# Altium schematic symbol library En.SCHLIB: 250 symbols (part 3 of 5)
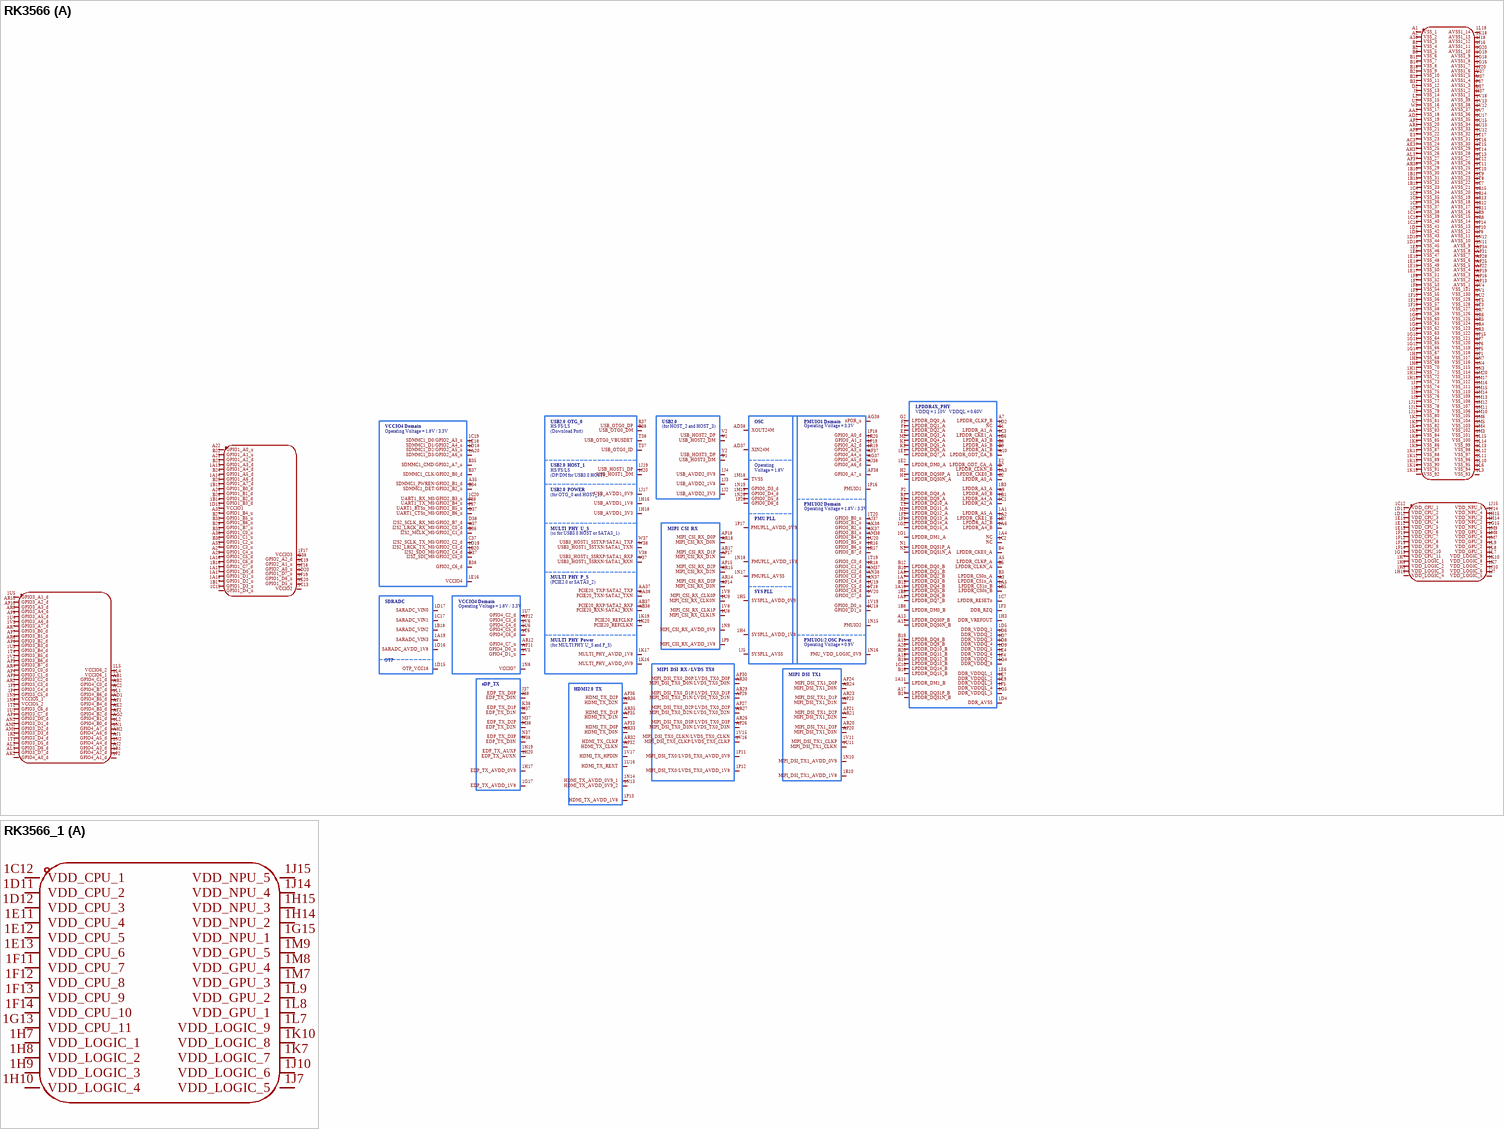
[diagram p21: symbols RK3566 to RK3566_1]

## RK3566
designator U?  (value not drawn)
Manufacturer: Rockchip(瑞芯微); Add into BOM: yes; Symbol: RK3566; Device: RK3566; LCSC Part Name: RK3566; Supplier Part: C2943786; Manufacturer Part: RK3566; Supplier Footprint: BGA-565(15.5x14.4); JLCPCB Part Class: Extended Part; Datasheet: https://atta.szlcsc.com/upload/public/pdf/source/20240126/58C1D355804B22318A1D6A9C85EA3A92.pdf; Supplier: LCSC; Convert to PCB: yes
footprint BGA-565_L15.5-W14.4-P0.40_RK3566_1
3D model BGA-565_L15.5-W14.4-P0.40_RK3566_1
part A pins: 1A1 LPDDR_A5_A, 1A2 LPDDR_CKE1_B, 1A3 LPDDR_CKE0_B, 1A4 NC, 1A5 LPDDR_CS1n_B, 1A6 LPDDR_A4_B, 1A7 LPDDR_DQ3_B, 1A8 LPDDR_DQ2_B, 1A9 LPDDR_DQ7_B, 1A10 LPDDR_DQ5_B, 1A11 LPDDR_DM1_B, 1A13 GPIO1_A4_d, 1A14 GPIO1_A6_d, 1A15 GPIO1_D0_d, 1A16 GPIO1_C6_d, 1A17 GPIO1_D1_u, 1A18 GPIO1_D2_u, 1A19 SARADC_VIN3, 1A20 SDMMC1_D3/GPIO2_A6_u, 1B1 LPDDR_A4_A, 1B3 LPDDR_A3_A, 1B5 LPDDR_CS0n_B, 1B6 LPDDR_A3_B, 1B7 LPDDR_A2_B, 1B8 LPDDR_DM0_B, 1B9 LPDDR_DQ6_B, 1B10 VSS_30, 1B11 VSS_31, 1B13 GPIO1_B0_d, 1B14 GPIO1_B3_d, 1B15 VSS_32, 1B16 GPIO1_C7_d, 1B17 GPIO1_D3_u, 1B18 SARADC_VIN2, 1B19 VSS_33, 1B20 I2S2_SDO_M0/GPIO2_C4_d, 1C1 LPDDR_A2_A, 1C2 NC, 1C3 LPDDR_CKE1_A, 1C4 VSS_34, 1C5 VSS_35, 1C6 VSS_36, 1C7 LPDDR_RESETn, 1C8 VSS_37, 1C9 VSS_38, 1C10 LPDDR_DQ14_B, 1C12 VDD_CPU_1, 1C13 VCCIO2, 1C14 VSS_39, 1C15 GPIO1_D4_u, 1C16 VSS_40, 1C17 SARADC_VIN1, 1C18 VSS_41, 1C19 SDMMC1_D0/GPIO2_A3_u, 1C20 UART1_RX_M0/GPIO2_B3_u, 1D1 VSS_42, 1D2 NC, 1D3 VSS_43, 1D4 DDR_AVSS, 1D5 DDR_VDDQ_1, 1D6 DDR_VDDQ_2, 1D7 DDR_VDDQ_3, 1D8 DDR_VDDQ_4, 1D9 DDR_VDDQ_5, 1D10 VSS_44, 1D11 VDD_CPU_2, 1D12 VDD_CPU_3, 1D13 VCCIO1, 1D14 VSS_45, 1D15 OTP_VCC18, 1D16 SARADC_AVDD_1V8, 1D17 SARADC_VIN0, 1D18 SDMMC1_D2/GPIO2_A5_u, 1D19 I2S2_LRCK_TX_M0/GPIO2_C3_d, 1D20 GPIO1_D7_u, 1E1 LPDDR_DQ7_A, 1E2 LPDDR_DM0_A, 1E3 VSS_46, 1E4 DDR_VDDQ_6, 1E6 DDR_VDDQL_1, 1E7 DDR_VDDQL_2, 1E8 VSS_47, 1E9 DDR_VDDQL_3, 1E10 VSS_48, 1E11 VDD_CPU_4, 1E12 VDD_CPU_5, 1E13 VDD_CPU_6, 1E14 VSS_49, 1E15 VSS_50, 1E16 VCCIO4, 1E17 VSS_51, 1E18 SDMMC1_D1/GPIO2_A4_u, 1E19 GPIO2_A1_u, 1E20 GPIO1_D5_u, 1F1 LPDDR_DQ14_A, 1F2 LPDDR_DQ13_A, 1F3 DDR_RZQ, 1F4 DDR_VDDQ_7, 1F5 DDR_VDDQL_4, 1F6 VSS_52, 1F7 VSS_53, 1F8 VSS_54, 1F9 VSS_55, 1F10 VSS_56, 1F11 VDD_CPU_7, 1F12 VDD_CPU_8, 1F13 VDD_CPU_9, 1F14 VDD_CPU_10, 1F15 VSS_57, 1F16 VSS_58, 1F17 VCCIO3, 1F18 GPIO2_A0_u, 1F19 GPIO1_D6_u, 1F20 AVSS1_6, 1G1 LPDDR_DM1_A, 1G2 LPDDR_DQ15_A, 1G3 VSS_59, 1G4 DDR_VDDQ_8, 1G5 DDR_VDDQL_5, 1G6 VSS_60, 1G7 VSS_61, 1G8 VSS_62, 1G9 VSS_63, 1G10 VSS_64, 1G11 VSS_65, 1G12 VSS_66, 1G13 VDD_CPU_11, 1G14 VSS_67, 1G15 VDD_NPU_1, 1G16 AVSS1_7, 1G17 EDP_TX_AVDD_1V8, 1G18 AVSS1_8, 1G19 AVSS1_9, 1G20 AVSS1_10, 1H1 VSS_68, 1H2 VSS_69, 1H3 DDR_VREFOUT, 1H4 SYSPLL_AVDD_1V8, 1H5 SYSPLL_AVDD_0V9, 1H6 VSS_70, 1H7 VDD_LOGIC_1, 1H8 VDD_LOGIC_2, 1H9 VDD_LOGIC_3, 1H10 VDD_LOGIC_4, 1H11 VSS_71, 1H12 VSS_72, 1H13 VSS_73, 1H14 VDD_NPU_2, 1H15 VDD_NPU_3, 1H16 USB_AVDD1_1V8, 1H17 EDP_TX_AVDD_0V9, 1H18 USB_AVDD1_3V3, 1H19 EDP_TX_AUXP, 1H20 EDP_TX_AUXN, 1J1 VSS_74, 1J2 USB_AVDD2_3V3, 1J3 USB_AVDD2_1V8, 1J4 USB_AVDD2_0V9, 1J5 SYSPLL_AVSS, 1J6 VSS_75, 1J7 VDD_LOGIC_5, 1J8 VSS_76, 1J9 VSS_77, 1J10 VDD_LOGIC_6, 1J11 VSS_78, 1J12 VSS_79, 1J13 VSS_80, 1J14 VDD_NPU_4, 1J15 VDD_NPU_5, 1J16 AVSS1_11, 1J17 USB_AVDD1_0V9, 1J18 AVSS1_12, 1J19 USB_HOST1_DP, 1J20 USB_HOST1_DM, 1K2 VSS_81, 1K3 VSS_82, 1K4 VSS_83, 1K5 VSS_84, 1K6 VSS_85, 1K7 VDD_LOGIC_7, 1K8 VSS_86, 1K9 VSS_87, 1K10 VDD_LOGIC_8, 1K11 VSS_88, 1K12 VSS_89, 1K13 VSS_90, 1K14 VSS_91, 1K15 VSS_92, 1K16 MULTI_PHY_AVDD_0V9, 1K17 MULTI_PHY_AVDD_1V8, 1K18 AVSS1_13, 1K19 PCIE20_REFCLKP, 1K20 PCIE20_REFCLKN, 1L1 GPIO4_B6_d, 1L2 GPIO4_B0_d, 1L3 VSS_93, 1L4 VCCIO6_1, 1L5 VCCIO6_2, 1L6 VSS_94, 1L7 VDD_LOGIC_9, 1L8 VDD_GPU_1, 1L9 VDD_GPU_2, 1L10 VSS_95, 1L11 VSS_96, 1L12 VSS_97, 1L13 VSS_98, 1L14 VSS_99, 1L15 VSS_100, 1L19 AVSS1_14, 1M3 VSS_101, 1M4 VSS_102, 1M5 VSS_103, 1M6 VSS_104, 1M7 VDD_GPU_3, 1M8 VDD_GPU_4, 1M9 VDD_GPU_5, 1M10 VSS_105, 1M11 VSS_106, 1M12 VSS_107, 1M13 VSS_108, 1M14 VSS_109, 1M15 VSS_110, 1M16 VSS_111, 1M17 VSS_112, 1M18 TVSS, 1M19 GPIO0_D4_d, 1M20 VSS_113, 1N1 GPIO4_A7_d, 1N2 GPIO4_A4_d, 1N3 VSS_114, 1N4 VSS_115, 1N5 VCCIO5_1, 1N6 VCCIO5_2, 1N7 VSS_116, 1N8 VCCIO7, 1N9 MIPI_CSI_RX_AVDD_0V9, 1N10 MIPI_DSI_TX1_AVDD_0V9, 1N11 AVSS_9, 1N12 AVSS_10, 1N13 HDMI_TX_AVDD_0V9_2, 1N14 HDMI_TX_AVDD_0V9_1, 1N15 PMUIO2, 1N16 PMU_VDD_LOGIC_0V9, 1N17 PMUPLL_AVSS, 1N18 PMUPLL_AVDD_1V8, 1N19 GPIO0_D3_d, 1N20 GPIO0_D5_d, 1P1 VSS_117, 1P2 GPIO4_A1_d, 1P3 GPIO3_C4_d, 1P4 GPIO3_C5_d, 1P5 VSS_118, 1P6 VSS_119, 1P7 VSS_120, 1P8 AVSS_11, 1P9 MIPI_CSI_RX_AVDD_1V8, 1P10 AVSS_12, 1P11 MIPI_DSI_TX0/LVDS_TX0_AVDD_0V9, 1P12 MIPI_DSI_TX0/LVDS_TX0_AVDD_1V8, 1P13 HDMI_TX_AVDD_1V8, 1P14 AVSS_13, 1P15 VSS_121, 1P16 PMUIO1, 1P17 PMUPLL_AVDD_0V9, 1P18 GPIO0_A0_d, 1P19 GPIO0_A2_d, 1P20 GPIO0_D6_d, 1R1 GPIO4_A2_d, 1R2 GPIO3_D4_d, 1R3 VSS_122, 1R4 VSS_123, 1R5 VSS_124, 1R6 VSS_125, 1R7 VSS_126, 1R8 AVSS_14, 1R9 AVSS_15, 1R10 MIPI_DSI_TX1_AVDD_1V8, 1R11 AVSS_16, 1R12 AVSS_17, 1R13 AVSS_18, 1R14 AVSS_19, 1R15 AVSS_20, 1R16 GPIO0_B6_u, 1R17 GPIO0_B7_d, 1R18 GPIO0_C1_d, 1R19 GPIO0_A3_u, 1R20 GPIO0_A1_z, 1T1 GPIO3_D5_d, 1T2 GPIO3_C6_d, 1T3 VSS_127, 1T4 GPIO3_B5_d, 1T5 VSS_128, 1T6 GPIO4_C6_d, 1T7 AVSS_21, 1T8 AVSS_22, 1T9 AVSS_23, 1T10 AVSS_24, 1T11 AVSS_25, 1T12 AVSS_26, 1T13 AVSS_27, 1T14 AVSS_28, 1T15 AVSS_29, 1T16 AVSS_30, 1T17 AVSS_31, 1T18 GPIO0_C6_d, 1T19 GPIO0_C0_d, 1T20 GPIO0_B0_u, 1U1 GPIO3_C7_d, 1U2 VSS_129, 1U3 GPIO3_B4_d, 1U4 GPIO3_A6_d, 1U5 GPIO3_A1_d, 1U6 GPIO4_C5_d, 1U7 GPIO4_C2_d, 1U8 MIPI_CSI_RX_CLK1N, 1U9 MIPI_CSI_RX_CLK0N, 1U11 MIPI_DSI_TX1_CLKN, 1U12 AVSS_32, 1U13 AVSS_33, 1U15 AVSS_34, 1U16 HDMI_TX_REXT, 1U17 AVSS_35, 1U18 GPIO0_D1_u, 1U19 GPIO0_C5_d, 1U20 GPIO0_B5_u, 1V1 VSS_130, 1V2 GPIO3_B6_d, 1V3 GPIO3_A7_d, 1V4 VSS_131, 1V5 GPIO4_D1_u, 1V6 GPIO4_C4_d, 1V7 AVSS_36, 1V8 MIPI_CSI_RX_CLK1P, 1V9 MIPI_CSI_RX_CLK0P, 1V11 MIPI_DSI_TX1_CLKP, 1V12 AVSS_37, 1V13 AVSS_38, 1V15 MIPI_DSI_TX0_CLKN/LVDS_TX0_CLKN, 1V16 MIPI_DSI_TX0_CLKP/LVDS_TX0_CLKP, 1V17 HDMI_TX_HPDIN, 1V18 AVSS_39, 1V19 GPIO0_D0_u, 1V20 GPIO0_C7_d, A1 VSS_1, A2 VSS_2, A3 LPDDR_CS1n_A, A5 LPDDR_CLKP_A, A7 LPDDR_CLKP_B, A9 LPDDR_A0_B, A10 LPDDR_ODT_CA_B, A12 LPDDR_DQS0N_B, A13 LPDDR_DQS0P_B, A15 LPDDR_DQ12_B, A17 LPDDR_DQS1P_B, A19 LPDDR_DQ9_B, A20 LPDDR_DQ10_B, A22 GPIO1_A0_u, A23 GPIO1_A2_d, A26 GPIO1_B1_d, A27 GPIO1_C4_u, A29 GPIO1_C5_d, A30 GPIO1_C1_u, A32 GPIO1_B4_u, A33 GPIO1_C3_u, A35 SDMMC1_PWREN/GPIO2_B1_d, A37 I2S2_LRCK_RX_M0/GPIO2_C0_d, A38 VSS_3, AA2 VSS_18, AA37 PCIE20_TXP/SATA2_TXP, AA38 PCIE20_TXN/SATA2_TXN, AB1 GPIO4_C1_d, AB2 GPIO4_C0_d, AB37 PCIE20_RXP/SATA2_RXP, AB38 PCIE20_RXN/SATA2_RXN, AC2 GPIO4_B7_d, AC37 VSS_24, AD1 GPIO4_B5_d, AD2 VSS_19, AD37 XIN24M, AD38 XOUT24M, AE2 GPIO4_B3_d, AE37 VSS_25, AF1 GPIO4_B4_d, AF2 GPIO4_B2_d, AF37 GPIO0_A4_u, AF38 GPIO0_A7_u, AG2 GPIO4_B1_d, AG37 GPIO0_A5_d, AG38 nPOR_u, AH2 GPIO4_A6_d, AH37 VSS_26, AJ1 GPIO4_A5_d, AJ2 GPIO4_A3_d, AJ37 GPIO0_B1_u, AJ38 GPIO0_A6_d, AK2 GPIO4_A0_d, AK37 GPIO0_B3_u, AK38 GPIO0_B2_u, AL1 GPIO3_D7_d, AL2 GPIO3_D6_d, AL37 VSS_27, AM1 GPIO3_D3_d, AM2 GPIO3_D2_d, AM37 GPIO0_C2_d, AM38 GPIO0_B4_u, AN2 GPIO3_D1_d, AN37 GPIO0_C4_d, AN38 GPIO0_C3_d, AP1 GPIO3_D0_d, AP2 VSS_20, AP3 GPIO3_C2_d, AP4 GPIO3_C1_d, AP5 GPIO3_B7_d, AP6 GPIO3_B3_d, AP7 GPIO3_B1_d, AP8 VSS_22, AP9 GPIO3_A5_d, AP10 GPIO3_A3_d, AP11 GPIO4_D0_u, AP12 GPIO4_C3_d, AP13 AVSS_1, AP14 MIPI_CSI_RX_D3N, AP15 MIPI_CSI_RX_D2P, AP16 AVSS_2, AP17 MIPI_CSI_RX_D1N, AP18 MIPI_CSI_RX_D0P, AP19 AVSS_3, AP20 MIPI_DSI_TX1_D3N, AP21 MIPI_DSI_TX1_D2P, AP22 AVSS_4, AP23 MIPI_DSI_TX1_D1N, AP24 MIPI_DSI_TX1_D0P, AP25 AVSS_5, AP26 MIPI_DSI_TX0_D3N/LVDS_TX0_D3N, AP27 MIPI_DSI_TX0_D2P/LVDS_TX0_D2P, AP28 AVSS_6, AP29 MIPI_DSI_TX0_D1N/LVDS_TX0_D1N, AP30 MIPI_DSI_TX0_D0P/LVDS_TX0_D0P, AP31 AVSS_7, AP32 HDMI_TX_CLKN, AP33 HDMI_TX_D0P, AP34 AVSS_8, AP35 HDMI_TX_D1N, AP36 HDMI_TX_D2P, AP37 VSS_28, AR1 VSS_21, AR2 GPIO3_C3_d, AR4 GPIO3_C0_d, AR6 GPIO3_B2_d, AR7 GPIO3_B0_d, AR9 GPIO3_A4_d, AR10 GPIO3_A2_d, AR12 GPIO4_C7_u, AR14 MIPI_CSI_RX_D3P, AR15 MIPI_CSI_RX_D2N, AR17 MIPI_CSI_RX_D1P, AR18 MIPI_CSI_RX_D0N, AR20 MIPI_DSI_TX1_D3P, AR21 MIPI_DSI_TX1_D2N, AR23 MIPI_DSI_TX1_D1P, AR24 MIPI_DSI_TX1_D0N, AR26 MIPI_DSI_TX0_D3P/LVDS_TX0_D3P, AR27 MIPI_DSI_TX0_D2N/LVDS_TX0_D2N, AR29 MIPI_DSI_TX0_D1P/LVDS_TX0_D1P, AR30 MIPI_DSI_TX0_D0N/LVDS_TX0_D0N, AR32 HDMI_TX_CLKP, AR33 HDMI_TX_D0N, AR35 HDMI_TX_D1P, AR36 HDMI_TX_D2N, AR38 VSS_29, B1 VSS_4, B2 VSS_5, B3 LPDDR_CS0n_A, B4 LPDDR_CKE0_A, B5 LPDDR_CLKN_A, B6 VSS_6, B7 LPDDR_CLKN_B, B8 LPDDR_A5_B, B9 LPDDR_A1_B, B10 LPDDR_DQ1_B, B11 VSS_7, B12 LPDDR_DQ0_B, B13 LPDDR_DQ4_B, B14 VSS_8, B15 LPDDR_DQ13_B, B16 LPDDR_DQ15_B, B17 LPDDR_DQS1N_B, B18 VSS_9, B19 LPDDR_DQ8_B, B20 LPDDR_DQ11_B, B21 VSS_10, B22 GPIO1_A1_u, B23 GPIO1_A3_d, B24 GPIO1_A5_d, B25 GPIO1_A7_d, B26 GPIO1_B2_d, B27 GPIO1_B5_u, B28 VSS_11, B29 GPIO1_B7_u, B30 GPIO1_C2_u, B31 VSS_12, B32 GPIO1_B6_u, B33 GPIO1_C0_u, B34 SDMMC1_DET/GPIO2_B2_u, B35 SDMMC1_CMD/GPIO2_A7_u, B36 I2S2_MCLK_M0/GPIO2_C1_d, B37 SDMMC1_CLK/GPIO2_B0_d, B38 GPIO2_C6_d, C1 LPDDR_A1_A, C2 LPDDR_A0_A, C37 I2S2_SCLK_TX_M0/GPIO2_C2_d, D2 VSS_13, D37 I2S2_SDI_M0/GPIO2_C5_d, D38 I2S2_SCLK_RX_M0/GPIO2_B7_d, E1 LPDDR_DQ3_A, E2 LPDDR_ODT_CA_A, E37 VSS_23, F1 LPDDR_DQ2_A, F2 LPDDR_DQ1_A, F37 UART1_RTSn_M0/GPIO2_B5_u, F38 UART1_TX_M0/GPIO2_B4_u, G2 LPDDR_DQ0_A, G37 UART1_CTSn_M0/GPIO2_B6_u, G38 GPIO2_A2_d, H1 LPDDR_DQS0N_A, H2 LPDDR_DQS0P_A, H37 AVSS1_1, J2 VSS_14, J37 EDP_TX_D0P, J38 EDP_TX_D0N, K1 LPDDR_DQ5_A, K2 LPDDR_DQ6_A, K37 EDP_TX_D1N, K38 EDP_TX_D1P, L2 VSS_15, L37 AVSS1_2, M1 LPDDR_DQ12_A, M2 LPDDR_DQ4_A, M37 EDP_TX_D2P, M38 EDP_TX_D2N, N1 LPDDR_DQS1P_A, N2 LPDDR_DQS1N_A, N37 EDP_TX_D3P, N38 EDP_TX_D3N, P2 LPDDR_DQ8_A, P37 AVSS1_3, R1 LPDDR_DQ9_A, R2 LPDDR_DQ10_A, R37 USB_OTG0_DP, R38 USB_OTG0_DM, T2 LPDDR_DQ11_A, T37 USB_OTG0_ID, T38 USB_OTG0_VBUSDET, U2 VSS_16, U37 AVSS1_4, V1 USB_HOST2_DM, V2 USB_HOST2_DP, V37 USB3_HOST1_SSRXN/SATA1_RXN, V38 USB3_HOST1_SSRXP/SATA1_RXP, W2 VSS_17, W37 USB3_HOST1_SSTXP/SATA1_TXP, W38 USB3_HOST1_SSTXN/SATA1_TXN, Y1 USB_HOST3_DM, Y2 USB_HOST3_DP, Y37 AVSS1_5
part A text: LPDDR4X_PHY; VDDQ = 1.10V   VDDQL = 0.60V; USB2.0  OTG_0; USB2.0; OSC; PMUIO1 Domain; VCCIO4 Domain; HS/FS/LS; (for HOST_2 and HOST_3); Operating Voltage = 3.3V; Operating Voltage = 1.8V / 3.3V; (Download Port); USB2.0  HOST_1; Operating; Voltage = 1.8V; (DP/DM for USB3.0 HOST); USB2.0  POWER; (for OTG_0 and HOST_1); PMUIO2 Domain; PMU PLL; MULTI  PHY  U_S; MIPI  CSI  RX; (ss for USB3.0 HOST or SATA3_1); MULTI  PHY  P_S; (PCIE2.0 or SATA3_2); SYS PLL; SDRADC; MULTI  PHY  Power; PMUIO1/2 OSC Power; (for MULTI PHY U_S and P_S); Operating Voltage = 0.9V; OTP; MIPI  DSI  RX / LVDS  TX0; MIPI  DSI  TX1; eDP_TX; HDMI2.0  TX

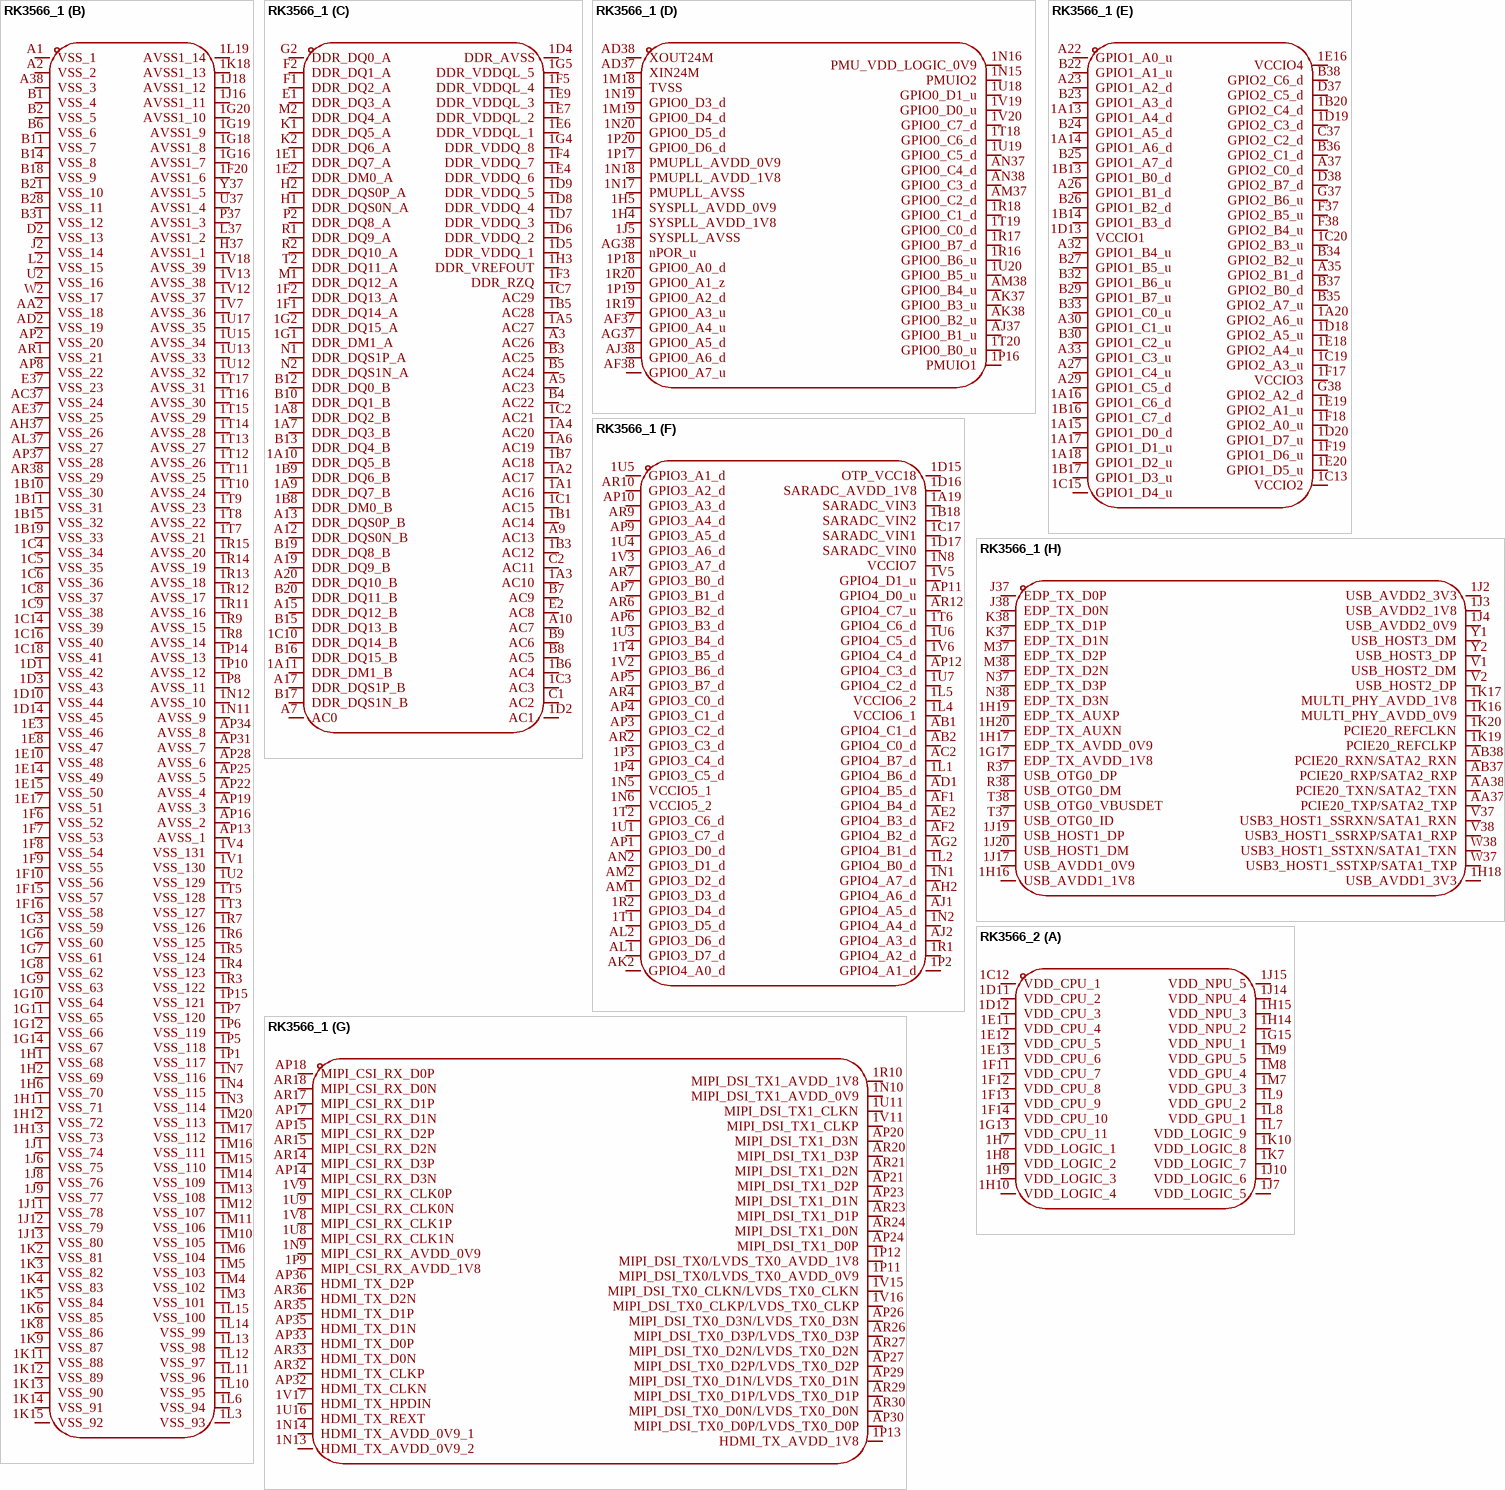
[diagram p8: symbols RK3566_1 to RK3566_2]

## RK3566_1
designator U?, comment RK3566  (value not drawn)
Manufacturer: Rockchip(瑞芯微); Add into BOM: yes; Symbol: RK3566; Device: RK3566; LCSC Part Name: RK3566; Supplier Part: C2943786; Manufacturer Part: RK3566; Supplier Footprint: BGA-565(15.5x14.4); JLCPCB Part Class: Extended Part; Datasheet: https://atta.szlcsc.com/upload/public/pdf/source/20240126/58C1D355804B22318A1D6A9C85EA3A92.pdf; Supplier: LCSC; Convert to PCB: yes
footprint BGA-565_L15.5-W14.4-P0.40_RK3566_1
3D model BGA-565_L15.5-W14.4-P0.40_RK3566_1
part A pins: 1C12 VDD_CPU_1, 1D11 VDD_CPU_2, 1D12 VDD_CPU_3, 1E11 VDD_CPU_4, 1E12 VDD_CPU_5, 1E13 VDD_CPU_6, 1F11 VDD_CPU_7, 1F12 VDD_CPU_8, 1F13 VDD_CPU_9, 1F14 VDD_CPU_10, 1G13 VDD_CPU_11, 1G15 VDD_NPU_1, 1H7 VDD_LOGIC_1, 1H8 VDD_LOGIC_2, 1H9 VDD_LOGIC_3, 1H10 VDD_LOGIC_4, 1H14 VDD_NPU_2, 1H15 VDD_NPU_3, 1J7 VDD_LOGIC_5, 1J10 VDD_LOGIC_6, 1J14 VDD_NPU_4, 1J15 VDD_NPU_5, 1K7 VDD_LOGIC_7, 1K10 VDD_LOGIC_8, 1L7 VDD_LOGIC_9, 1L8 VDD_GPU_1, 1L9 VDD_GPU_2, 1M7 VDD_GPU_3, 1M8 VDD_GPU_4, 1M9 VDD_GPU_5
part B pins: 1B10 VSS_30, 1B11 VSS_31, 1B15 VSS_32, 1B19 VSS_33, 1C4 VSS_34, 1C5 VSS_35, 1C6 VSS_36, 1C8 VSS_37, 1C9 VSS_38, 1C14 VSS_39, 1C16 VSS_40, 1C18 VSS_41, 1D1 VSS_42, 1D3 VSS_43, 1D10 VSS_44, 1D14 VSS_45, 1E3 VSS_46, 1E8 VSS_47, 1E10 VSS_48, 1E14 VSS_49, 1E15 VSS_50, 1E17 VSS_51, 1F6 VSS_52, 1F7 VSS_53, 1F8 VSS_54, 1F9 VSS_55, 1F10 VSS_56, 1F15 VSS_57, 1F16 VSS_58, 1F20 AVSS1_6, 1G3 VSS_59, 1G6 VSS_60, 1G7 VSS_61, 1G8 VSS_62, 1G9 VSS_63, 1G10 VSS_64, 1G11 VSS_65, 1G12 VSS_66, 1G14 VSS_67, 1G16 AVSS1_7, 1G18 AVSS1_8, 1G19 AVSS1_9, 1G20 AVSS1_10, 1H1 VSS_68, 1H2 VSS_69, 1H6 VSS_70, 1H11 VSS_71, 1H12 VSS_72, 1H13 VSS_73, 1J1 VSS_74, 1J6 VSS_75, 1J8 VSS_76, 1J9 VSS_77, 1J11 VSS_78, 1J12 VSS_79, 1J13 VSS_80, 1J16 AVSS1_11, 1J18 AVSS1_12, 1K2 VSS_81, 1K3 VSS_82, 1K4 VSS_83, 1K5 VSS_84, 1K6 VSS_85, 1K8 VSS_86, 1K9 VSS_87, 1K11 VSS_88, 1K12 VSS_89, 1K13 VSS_90, 1K14 VSS_91, 1K15 VSS_92, 1K18 AVSS1_13, 1L3 VSS_93, 1L6 VSS_94, 1L10 VSS_95, 1L11 VSS_96, 1L12 VSS_97, 1L13 VSS_98, 1L14 VSS_99, 1L15 VSS_100, 1L19 AVSS1_14, 1M3 VSS_101, 1M4 VSS_102, 1M5 VSS_103, 1M6 VSS_104, 1M10 VSS_105, 1M11 VSS_106, 1M12 VSS_107, 1M13 VSS_108, 1M14 VSS_109, 1M15 VSS_110, 1M16 VSS_111, 1M17 VSS_112, 1M20 VSS_113, 1N3 VSS_114, 1N4 VSS_115, 1N7 VSS_116, 1N11 AVSS_9, 1N12 AVSS_10, 1P1 VSS_117, 1P5 VSS_118, 1P6 VSS_119, 1P7 VSS_120, 1P8 AVSS_11, 1P10 AVSS_12, 1P14 AVSS_13, 1P15 VSS_121, 1R3 VSS_122, 1R4 VSS_123, 1R5 VSS_124, 1R6 VSS_125, 1R7 VSS_126, 1R8 AVSS_14, 1R9 AVSS_15, 1R11 AVSS_16, 1R12 AVSS_17, 1R13 AVSS_18, 1R14 AVSS_19, 1R15 AVSS_20, 1T3 VSS_127, 1T5 VSS_128, 1T7 AVSS_21, 1T8 AVSS_22, 1T9 AVSS_23, 1T10 AVSS_24, 1T11 AVSS_25, 1T12 AVSS_26, 1T13 AVSS_27, 1T14 AVSS_28, 1T15 AVSS_29, 1T16 AVSS_30, 1T17 AVSS_31, 1U2 VSS_129, 1U12 AVSS_32, 1U13 AVSS_33, 1U15 AVSS_34, 1U17 AVSS_35, 1V1 VSS_130, 1V4 VSS_131, 1V7 AVSS_36, 1V12 AVSS_37, 1V13 AVSS_38, 1V18 AVSS_39, A1 VSS_1, A2 VSS_2, A38 VSS_3, AA2 VSS_18, AC37 VSS_24, AD2 VSS_19, AE37 VSS_25, AH37 VSS_26, AL37 VSS_27, AP2 VSS_20, AP8 VSS_22, AP13 AVSS_1, AP16 AVSS_2, AP19 AVSS_3, AP22 AVSS_4, AP25 AVSS_5, AP28 AVSS_6, AP31 AVSS_7, AP34 AVSS_8, AP37 VSS_28, AR1 VSS_21, AR38 VSS_29, B1 VSS_4, B2 VSS_5, B6 VSS_6, B11 VSS_7, B14 VSS_8, B18 VSS_9, B21 VSS_10, B28 VSS_11, B31 VSS_12, D2 VSS_13, E37 VSS_23, H37 AVSS1_1, J2 VSS_14, L2 VSS_15, L37 AVSS1_2, P37 AVSS1_3, U2 VSS_16, U37 AVSS1_4, W2 VSS_17, Y37 AVSS1_5
part C pins: 1A1 AC16, 1A2 AC17, 1A3 AC10, 1A4 AC20, 1A5 AC27, 1A6 AC19, 1A7 DDR_DQ3_B, 1A8 DDR_DQ2_B, 1A9 DDR_DQ7_B, 1A10 DDR_DQ5_B, 1A11 DDR_DM1_B, 1B1 AC14, 1B3 AC12, 1B5 AC28, 1B6 AC4, 1B7 AC18, 1B8 DDR_DM0_B, 1B9 DDR_DQ6_B, 1C1 AC15, 1C2 AC21, 1C3 AC3, 1C7 AC29, 1C10 DDR_DQ14_B, 1D2 AC1, 1D4 DDR_AVSS, 1D5 DDR_VDDQ_1, 1D6 DDR_VDDQ_2, 1D7 DDR_VDDQ_3, 1D8 DDR_VDDQ_4, 1D9 DDR_VDDQ_5, 1E1 DDR_DQ7_A, 1E2 DDR_DM0_A, 1E4 DDR_VDDQ_6, 1E6 DDR_VDDQL_1, 1E7 DDR_VDDQL_2, 1E9 DDR_VDDQL_3, 1F1 DDR_DQ14_A, 1F2 DDR_DQ13_A, 1F3 DDR_RZQ, 1F4 DDR_VDDQ_7, 1F5 DDR_VDDQL_4, 1G1 DDR_DM1_A, 1G2 DDR_DQ15_A, 1G4 DDR_VDDQ_8, 1G5 DDR_VDDQL_5, 1H3 DDR_VREFOUT, A3 AC26, A5 AC23, A7 AC0, A9 AC13, A10 AC7, A12 DDR_DQS0N_B, A13 DDR_DQS0P_B, A15 DDR_DQ12_B, A17 DDR_DQS1P_B, A19 DDR_DQ9_B, A20 DDR_DQ10_B, B3 AC25, B4 AC22, B5 AC24, B7 AC9, B8 AC5, B9 AC6, B10 DDR_DQ1_B, B12 DDR_DQ0_B, B13 DDR_DQ4_B, B15 DDR_DQ13_B, B16 DDR_DQ15_B, B17 DDR_DQS1N_B, B19 DDR_DQ8_B, B20 DDR_DQ11_B, C1 AC2, C2 AC11, E1 DDR_DQ3_A, E2 AC8, F1 DDR_DQ2_A, F2 DDR_DQ1_A, G2 DDR_DQ0_A, H1 DDR_DQS0N_A, H2 DDR_DQS0P_A, K1 DDR_DQ5_A, K2 DDR_DQ6_A, M1 DDR_DQ12_A, M2 DDR_DQ4_A, N1 DDR_DQS1P_A, N2 DDR_DQS1N_A, P2 DDR_DQ8_A, R1 DDR_DQ9_A, R2 DDR_DQ10_A, T2 DDR_DQ11_A
part D pins: 1H4 SYSPLL_AVDD_1V8, 1H5 SYSPLL_AVDD_0V9, 1J5 SYSPLL_AVSS, 1M18 TVSS, 1M19 GPIO0_D4_d, 1N15 PMUIO2, 1N16 PMU_VDD_LOGIC_0V9, 1N17 PMUPLL_AVSS, 1N18 PMUPLL_AVDD_1V8, 1N19 GPIO0_D3_d, 1N20 GPIO0_D5_d, 1P16 PMUIO1, 1P17 PMUPLL_AVDD_0V9, 1P18 GPIO0_A0_d, 1P19 GPIO0_A2_d, 1P20 GPIO0_D6_d, 1R16 GPIO0_B6_u, 1R17 GPIO0_B7_d, 1R18 GPIO0_C1_d, 1R19 GPIO0_A3_u, 1R20 GPIO0_A1_z, 1T18 GPIO0_C6_d, 1T19 GPIO0_C0_d, 1T20 GPIO0_B0_u, 1U18 GPIO0_D1_u, 1U19 GPIO0_C5_d, 1U20 GPIO0_B5_u, 1V19 GPIO0_D0_u, 1V20 GPIO0_C7_d, AD37 XIN24M, AD38 XOUT24M, AF37 GPIO0_A4_u, AF38 GPIO0_A7_u, AG37 GPIO0_A5_d, AG38 nPOR_u, AJ37 GPIO0_B1_u, AJ38 GPIO0_A6_d, AK37 GPIO0_B3_u, AK38 GPIO0_B2_u, AM37 GPIO0_C2_d, AM38 GPIO0_B4_u, AN37 GPIO0_C4_d, AN38 GPIO0_C3_d
part E pins: 1A13 GPIO1_A4_d, 1A14 GPIO1_A6_d, 1A15 GPIO1_D0_d, 1A16 GPIO1_C6_d, 1A17 GPIO1_D1_u, 1A18 GPIO1_D2_u, 1A20 GPIO2_A6_u, 1B13 GPIO1_B0_d, 1B14 GPIO1_B3_d, 1B16 GPIO1_C7_d, 1B17 GPIO1_D3_u, 1B20 GPIO2_C4_d, 1C13 VCCIO2, 1C15 GPIO1_D4_u, 1C19 GPIO2_A3_u, 1C20 GPIO2_B3_u, 1D13 VCCIO1, 1D18 GPIO2_A5_u, 1D19 GPIO2_C3_d, 1D20 GPIO1_D7_u, 1E16 VCCIO4, 1E18 GPIO2_A4_u, 1E19 GPIO2_A1_u, 1E20 GPIO1_D5_u, 1F17 VCCIO3, 1F18 GPIO2_A0_u, 1F19 GPIO1_D6_u, A22 GPIO1_A0_u, A23 GPIO1_A2_d, A26 GPIO1_B1_d, A27 GPIO1_C4_u, A29 GPIO1_C5_d, A30 GPIO1_C1_u, A32 GPIO1_B4_u, A33 GPIO1_C3_u, A35 GPIO2_B1_d, A37 GPIO2_C0_d, B22 GPIO1_A1_u, B23 GPIO1_A3_d, B24 GPIO1_A5_d, B25 GPIO1_A7_d, B26 GPIO1_B2_d, B27 GPIO1_B5_u, B29 GPIO1_B7_u, B30 GPIO1_C2_u, B32 GPIO1_B6_u, B33 GPIO1_C0_u, B34 GPIO2_B2_u, B35 GPIO2_A7_u, B36 GPIO2_C1_d, B37 GPIO2_B0_d, B38 GPIO2_C6_d, C37 GPIO2_C2_d, D37 GPIO2_C5_d, D38 GPIO2_B7_d, F37 GPIO2_B5_u, F38 GPIO2_B4_u, G37 GPIO2_B6_u, G38 GPIO2_A2_d
part F pins: 1A19 SARADC_VIN3, 1B18 SARADC_VIN2, 1C17 SARADC_VIN1, 1D15 OTP_VCC18, 1D16 SARADC_AVDD_1V8, 1D17 SARADC_VIN0, 1L1 GPIO4_B6_d, 1L2 GPIO4_B0_d, 1L4 VCCIO6_1, 1L5 VCCIO6_2, 1N1 GPIO4_A7_d, 1N2 GPIO4_A4_d, 1N5 VCCIO5_1, 1N6 VCCIO5_2, 1N8 VCCIO7, 1P2 GPIO4_A1_d, 1P3 GPIO3_C4_d, 1P4 GPIO3_C5_d, 1R1 GPIO4_A2_d, 1R2 GPIO3_D4_d, 1T1 GPIO3_D5_d, 1T2 GPIO3_C6_d, 1T4 GPIO3_B5_d, 1T6 GPIO4_C6_d, 1U1 GPIO3_C7_d, 1U3 GPIO3_B4_d, 1U4 GPIO3_A6_d, 1U5 GPIO3_A1_d, 1U6 GPIO4_C5_d, 1U7 GPIO4_C2_d, 1V2 GPIO3_B6_d, 1V3 GPIO3_A7_d, 1V5 GPIO4_D1_u, 1V6 GPIO4_C4_d, AB1 GPIO4_C1_d, AB2 GPIO4_C0_d, AC2 GPIO4_B7_d, AD1 GPIO4_B5_d, AE2 GPIO4_B3_d, AF1 GPIO4_B4_d, AF2 GPIO4_B2_d, AG2 GPIO4_B1_d, AH2 GPIO4_A6_d, AJ1 GPIO4_A5_d, AJ2 GPIO4_A3_d, AK2 GPIO4_A0_d, AL1 GPIO3_D7_d, AL2 GPIO3_D6_d, AM1 GPIO3_D3_d, AM2 GPIO3_D2_d, AN2 GPIO3_D1_d, AP1 GPIO3_D0_d, AP3 GPIO3_C2_d, AP4 GPIO3_C1_d, AP5 GPIO3_B7_d, AP6 GPIO3_B3_d, AP7 GPIO3_B1_d, AP9 GPIO3_A5_d, AP10 GPIO3_A3_d, AP11 GPIO4_D0_u, AP12 GPIO4_C3_d, AR2 GPIO3_C3_d, AR4 GPIO3_C0_d, AR6 GPIO3_B2_d, AR7 GPIO3_B0_d, AR9 GPIO3_A4_d, AR10 GPIO3_A2_d, AR12 GPIO4_C7_u
part G pins: 1N9 MIPI_CSI_RX_AVDD_0V9, 1N10 MIPI_DSI_TX1_AVDD_0V9, 1N13 HDMI_TX_AVDD_0V9_2, 1N14 HDMI_TX_AVDD_0V9_1, 1P9 MIPI_CSI_RX_AVDD_1V8, 1P11 MIPI_DSI_TX0/LVDS_TX0_AVDD_0V9, 1P12 MIPI_DSI_TX0/LVDS_TX0_AVDD_1V8, 1P13 HDMI_TX_AVDD_1V8, 1R10 MIPI_DSI_TX1_AVDD_1V8, 1U8 MIPI_CSI_RX_CLK1N, 1U9 MIPI_CSI_RX_CLK0N, 1U11 MIPI_DSI_TX1_CLKN, 1U16 HDMI_TX_REXT, 1V8 MIPI_CSI_RX_CLK1P, 1V9 MIPI_CSI_RX_CLK0P, 1V11 MIPI_DSI_TX1_CLKP, 1V15 MIPI_DSI_TX0_CLKN/LVDS_TX0_CLKN, 1V16 MIPI_DSI_TX0_CLKP/LVDS_TX0_CLKP, 1V17 HDMI_TX_HPDIN, AP14 MIPI_CSI_RX_D3N, AP15 MIPI_CSI_RX_D2P, AP17 MIPI_CSI_RX_D1N, AP18 MIPI_CSI_RX_D0P, AP20 MIPI_DSI_TX1_D3N, AP21 MIPI_DSI_TX1_D2P, AP23 MIPI_DSI_TX1_D1N, AP24 MIPI_DSI_TX1_D0P, AP26 MIPI_DSI_TX0_D3N/LVDS_TX0_D3N, AP27 MIPI_DSI_TX0_D2P/LVDS_TX0_D2P, AP29 MIPI_DSI_TX0_D1N/LVDS_TX0_D1N, AP30 MIPI_DSI_TX0_D0P/LVDS_TX0_D0P, AP32 HDMI_TX_CLKN, AP33 HDMI_TX_D0P, AP35 HDMI_TX_D1N, AP36 HDMI_TX_D2P, AR14 MIPI_CSI_RX_D3P, AR15 MIPI_CSI_RX_D2N, AR17 MIPI_CSI_RX_D1P, AR18 MIPI_CSI_RX_D0N, AR20 MIPI_DSI_TX1_D3P, AR21 MIPI_DSI_TX1_D2N, AR23 MIPI_DSI_TX1_D1P, AR24 MIPI_DSI_TX1_D0N, AR26 MIPI_DSI_TX0_D3P/LVDS_TX0_D3P, AR27 MIPI_DSI_TX0_D2N/LVDS_TX0_D2N, AR29 MIPI_DSI_TX0_D1P/LVDS_TX0_D1P, AR30 MIPI_DSI_TX0_D0N/LVDS_TX0_D0N, AR32 HDMI_TX_CLKP, AR33 HDMI_TX_D0N, AR35 HDMI_TX_D1P, AR36 HDMI_TX_D2N
part H pins: 1G17 EDP_TX_AVDD_1V8, 1H16 USB_AVDD1_1V8, 1H17 EDP_TX_AVDD_0V9, 1H18 USB_AVDD1_3V3, 1H19 EDP_TX_AUXP, 1H20 EDP_TX_AUXN, 1J2 USB_AVDD2_3V3, 1J3 USB_AVDD2_1V8, 1J4 USB_AVDD2_0V9, 1J17 USB_AVDD1_0V9, 1J19 USB_HOST1_DP, 1J20 USB_HOST1_DM, 1K16 MULTI_PHY_AVDD_0V9, 1K17 MULTI_PHY_AVDD_1V8, 1K19 PCIE20_REFCLKP, 1K20 PCIE20_REFCLKN, AA37 PCIE20_TXP/SATA2_TXP, AA38 PCIE20_TXN/SATA2_TXN, AB37 PCIE20_RXP/SATA2_RXP, AB38 PCIE20_RXN/SATA2_RXN, J37 EDP_TX_D0P, J38 EDP_TX_D0N, K37 EDP_TX_D1N, K38 EDP_TX_D1P, M37 EDP_TX_D2P, M38 EDP_TX_D2N, N37 EDP_TX_D3P, N38 EDP_TX_D3N, R37 USB_OTG0_DP, R38 USB_OTG0_DM, T37 USB_OTG0_ID, T38 USB_OTG0_VBUSDET, V1 USB_HOST2_DM, V2 USB_HOST2_DP, V37 USB3_HOST1_SSRXN/SATA1_RXN, V38 USB3_HOST1_SSRXP/SATA1_RXP, W37 USB3_HOST1_SSTXP/SATA1_TXP, W38 USB3_HOST1_SSTXN/SATA1_TXN, Y1 USB_HOST3_DM, Y2 USB_HOST3_DP

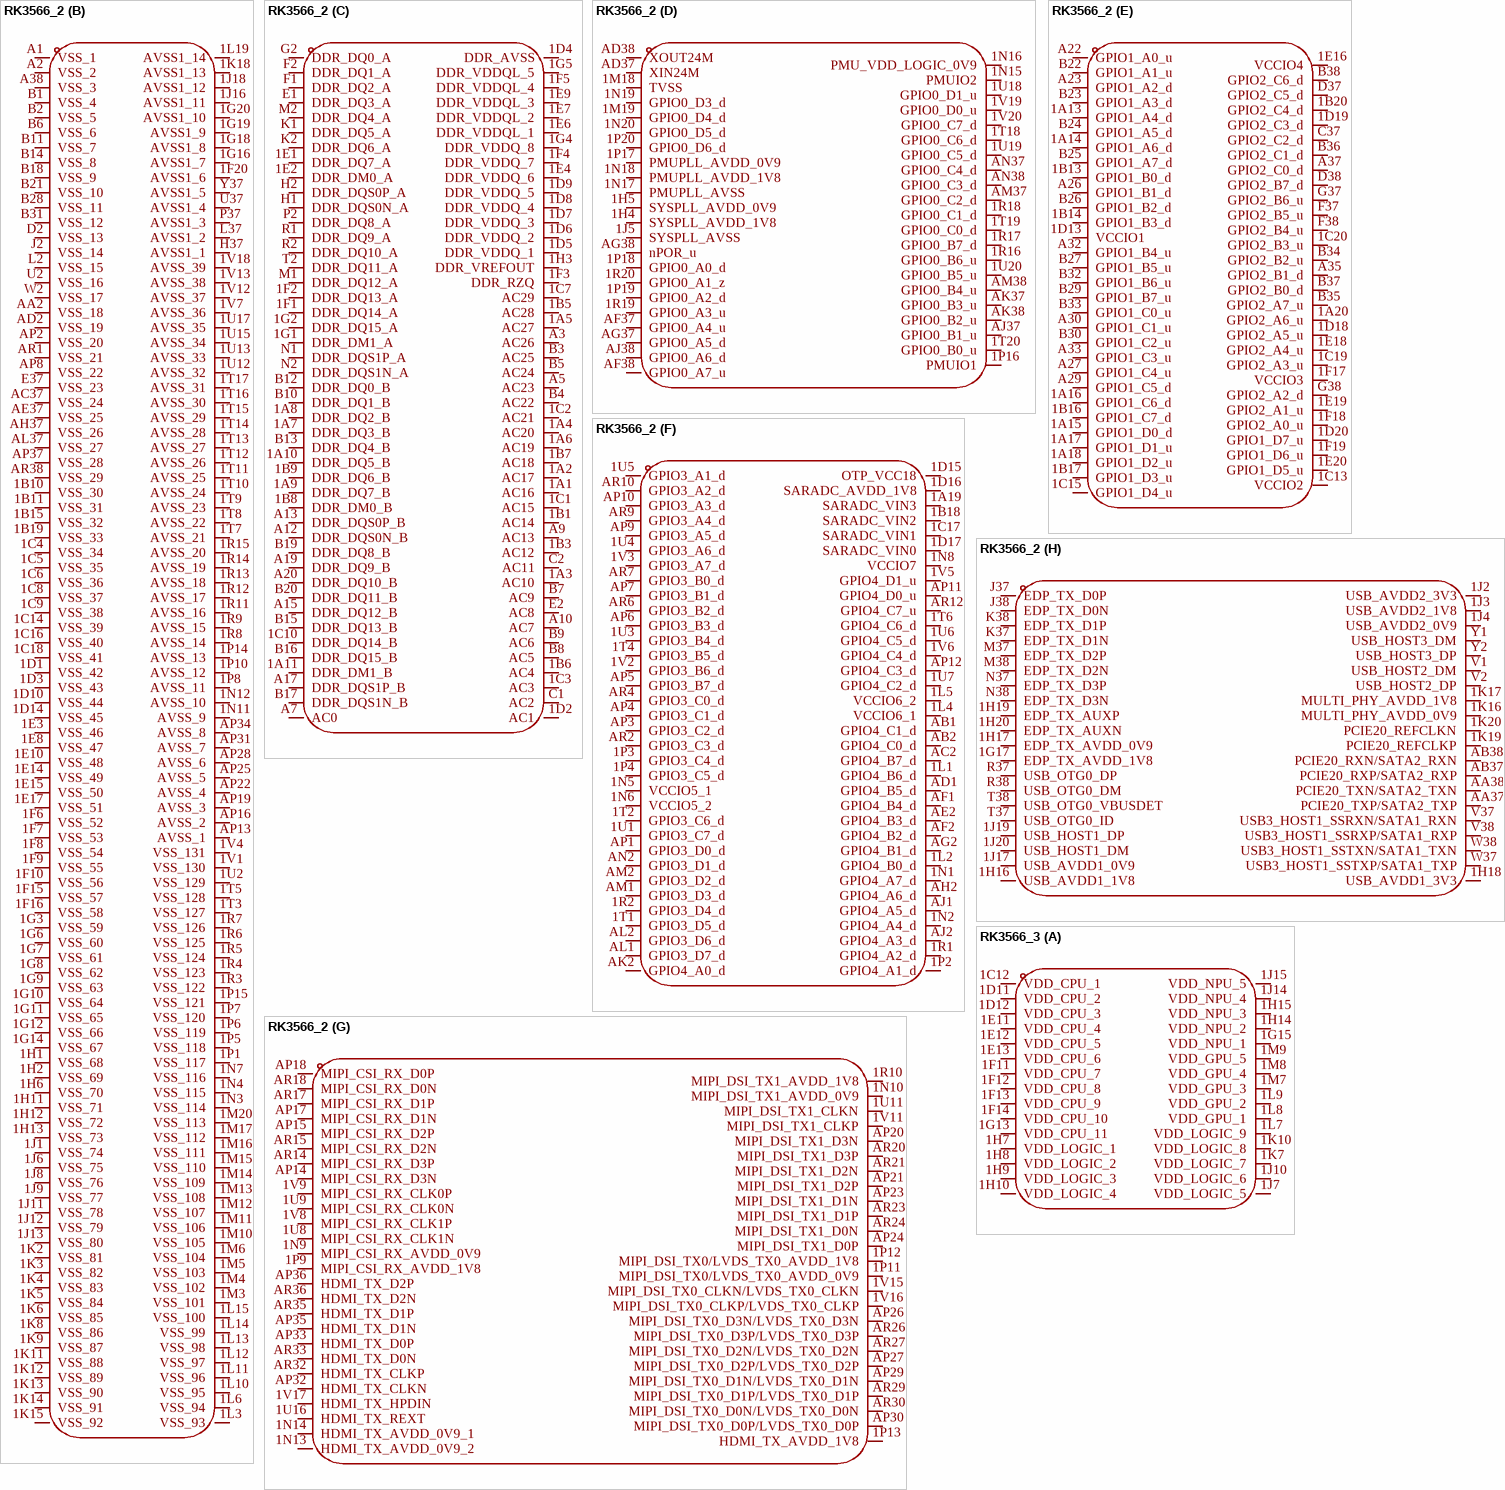
[diagram p9: symbols RK3566_2 to RK3566_3]

## RK3566_2
designator U?, comment RK3566  (value not drawn)
Manufacturer: Rockchip(瑞芯微); Add into BOM: yes; Symbol: RK3566; Device: RK3566; LCSC Part Name: RK3566; Supplier Part: C2943786; Manufacturer Part: RK3566; Supplier Footprint: BGA-565(15.5x14.4); JLCPCB Part Class: Extended Part; Datasheet: https://atta.szlcsc.com/upload/public/pdf/source/20240126/58C1D355804B22318A1D6A9C85EA3A92.pdf; Supplier: LCSC; Convert to PCB: yes
footprint BGA-565_L15.5-W14.4-P0.40_RK3566_1
3D model BGA-565_L15.5-W14.4-P0.40_RK3566_1
part A pins: 1C12 VDD_CPU_1, 1D11 VDD_CPU_2, 1D12 VDD_CPU_3, 1E11 VDD_CPU_4, 1E12 VDD_CPU_5, 1E13 VDD_CPU_6, 1F11 VDD_CPU_7, 1F12 VDD_CPU_8, 1F13 VDD_CPU_9, 1F14 VDD_CPU_10, 1G13 VDD_CPU_11, 1G15 VDD_NPU_1, 1H7 VDD_LOGIC_1, 1H8 VDD_LOGIC_2, 1H9 VDD_LOGIC_3, 1H10 VDD_LOGIC_4, 1H14 VDD_NPU_2, 1H15 VDD_NPU_3, 1J7 VDD_LOGIC_5, 1J10 VDD_LOGIC_6, 1J14 VDD_NPU_4, 1J15 VDD_NPU_5, 1K7 VDD_LOGIC_7, 1K10 VDD_LOGIC_8, 1L7 VDD_LOGIC_9, 1L8 VDD_GPU_1, 1L9 VDD_GPU_2, 1M7 VDD_GPU_3, 1M8 VDD_GPU_4, 1M9 VDD_GPU_5
part B pins: 1B10 VSS_30, 1B11 VSS_31, 1B15 VSS_32, 1B19 VSS_33, 1C4 VSS_34, 1C5 VSS_35, 1C6 VSS_36, 1C8 VSS_37, 1C9 VSS_38, 1C14 VSS_39, 1C16 VSS_40, 1C18 VSS_41, 1D1 VSS_42, 1D3 VSS_43, 1D10 VSS_44, 1D14 VSS_45, 1E3 VSS_46, 1E8 VSS_47, 1E10 VSS_48, 1E14 VSS_49, 1E15 VSS_50, 1E17 VSS_51, 1F6 VSS_52, 1F7 VSS_53, 1F8 VSS_54, 1F9 VSS_55, 1F10 VSS_56, 1F15 VSS_57, 1F16 VSS_58, 1F20 AVSS1_6, 1G3 VSS_59, 1G6 VSS_60, 1G7 VSS_61, 1G8 VSS_62, 1G9 VSS_63, 1G10 VSS_64, 1G11 VSS_65, 1G12 VSS_66, 1G14 VSS_67, 1G16 AVSS1_7, 1G18 AVSS1_8, 1G19 AVSS1_9, 1G20 AVSS1_10, 1H1 VSS_68, 1H2 VSS_69, 1H6 VSS_70, 1H11 VSS_71, 1H12 VSS_72, 1H13 VSS_73, 1J1 VSS_74, 1J6 VSS_75, 1J8 VSS_76, 1J9 VSS_77, 1J11 VSS_78, 1J12 VSS_79, 1J13 VSS_80, 1J16 AVSS1_11, 1J18 AVSS1_12, 1K2 VSS_81, 1K3 VSS_82, 1K4 VSS_83, 1K5 VSS_84, 1K6 VSS_85, 1K8 VSS_86, 1K9 VSS_87, 1K11 VSS_88, 1K12 VSS_89, 1K13 VSS_90, 1K14 VSS_91, 1K15 VSS_92, 1K18 AVSS1_13, 1L3 VSS_93, 1L6 VSS_94, 1L10 VSS_95, 1L11 VSS_96, 1L12 VSS_97, 1L13 VSS_98, 1L14 VSS_99, 1L15 VSS_100, 1L19 AVSS1_14, 1M3 VSS_101, 1M4 VSS_102, 1M5 VSS_103, 1M6 VSS_104, 1M10 VSS_105, 1M11 VSS_106, 1M12 VSS_107, 1M13 VSS_108, 1M14 VSS_109, 1M15 VSS_110, 1M16 VSS_111, 1M17 VSS_112, 1M20 VSS_113, 1N3 VSS_114, 1N4 VSS_115, 1N7 VSS_116, 1N11 AVSS_9, 1N12 AVSS_10, 1P1 VSS_117, 1P5 VSS_118, 1P6 VSS_119, 1P7 VSS_120, 1P8 AVSS_11, 1P10 AVSS_12, 1P14 AVSS_13, 1P15 VSS_121, 1R3 VSS_122, 1R4 VSS_123, 1R5 VSS_124, 1R6 VSS_125, 1R7 VSS_126, 1R8 AVSS_14, 1R9 AVSS_15, 1R11 AVSS_16, 1R12 AVSS_17, 1R13 AVSS_18, 1R14 AVSS_19, 1R15 AVSS_20, 1T3 VSS_127, 1T5 VSS_128, 1T7 AVSS_21, 1T8 AVSS_22, 1T9 AVSS_23, 1T10 AVSS_24, 1T11 AVSS_25, 1T12 AVSS_26, 1T13 AVSS_27, 1T14 AVSS_28, 1T15 AVSS_29, 1T16 AVSS_30, 1T17 AVSS_31, 1U2 VSS_129, 1U12 AVSS_32, 1U13 AVSS_33, 1U15 AVSS_34, 1U17 AVSS_35, 1V1 VSS_130, 1V4 VSS_131, 1V7 AVSS_36, 1V12 AVSS_37, 1V13 AVSS_38, 1V18 AVSS_39, A1 VSS_1, A2 VSS_2, A38 VSS_3, AA2 VSS_18, AC37 VSS_24, AD2 VSS_19, AE37 VSS_25, AH37 VSS_26, AL37 VSS_27, AP2 VSS_20, AP8 VSS_22, AP13 AVSS_1, AP16 AVSS_2, AP19 AVSS_3, AP22 AVSS_4, AP25 AVSS_5, AP28 AVSS_6, AP31 AVSS_7, AP34 AVSS_8, AP37 VSS_28, AR1 VSS_21, AR38 VSS_29, B1 VSS_4, B2 VSS_5, B6 VSS_6, B11 VSS_7, B14 VSS_8, B18 VSS_9, B21 VSS_10, B28 VSS_11, B31 VSS_12, D2 VSS_13, E37 VSS_23, H37 AVSS1_1, J2 VSS_14, L2 VSS_15, L37 AVSS1_2, P37 AVSS1_3, U2 VSS_16, U37 AVSS1_4, W2 VSS_17, Y37 AVSS1_5
part C pins: 1A1 AC16, 1A2 AC17, 1A3 AC10, 1A4 AC20, 1A5 AC27, 1A6 AC19, 1A7 DDR_DQ3_B, 1A8 DDR_DQ2_B, 1A9 DDR_DQ7_B, 1A10 DDR_DQ5_B, 1A11 DDR_DM1_B, 1B1 AC14, 1B3 AC12, 1B5 AC28, 1B6 AC4, 1B7 AC18, 1B8 DDR_DM0_B, 1B9 DDR_DQ6_B, 1C1 AC15, 1C2 AC21, 1C3 AC3, 1C7 AC29, 1C10 DDR_DQ14_B, 1D2 AC1, 1D4 DDR_AVSS, 1D5 DDR_VDDQ_1, 1D6 DDR_VDDQ_2, 1D7 DDR_VDDQ_3, 1D8 DDR_VDDQ_4, 1D9 DDR_VDDQ_5, 1E1 DDR_DQ7_A, 1E2 DDR_DM0_A, 1E4 DDR_VDDQ_6, 1E6 DDR_VDDQL_1, 1E7 DDR_VDDQL_2, 1E9 DDR_VDDQL_3, 1F1 DDR_DQ14_A, 1F2 DDR_DQ13_A, 1F3 DDR_RZQ, 1F4 DDR_VDDQ_7, 1F5 DDR_VDDQL_4, 1G1 DDR_DM1_A, 1G2 DDR_DQ15_A, 1G4 DDR_VDDQ_8, 1G5 DDR_VDDQL_5, 1H3 DDR_VREFOUT, A3 AC26, A5 AC23, A7 AC0, A9 AC13, A10 AC7, A12 DDR_DQS0N_B, A13 DDR_DQS0P_B, A15 DDR_DQ12_B, A17 DDR_DQS1P_B, A19 DDR_DQ9_B, A20 DDR_DQ10_B, B3 AC25, B4 AC22, B5 AC24, B7 AC9, B8 AC5, B9 AC6, B10 DDR_DQ1_B, B12 DDR_DQ0_B, B13 DDR_DQ4_B, B15 DDR_DQ13_B, B16 DDR_DQ15_B, B17 DDR_DQS1N_B, B19 DDR_DQ8_B, B20 DDR_DQ11_B, C1 AC2, C2 AC11, E1 DDR_DQ3_A, E2 AC8, F1 DDR_DQ2_A, F2 DDR_DQ1_A, G2 DDR_DQ0_A, H1 DDR_DQS0N_A, H2 DDR_DQS0P_A, K1 DDR_DQ5_A, K2 DDR_DQ6_A, M1 DDR_DQ12_A, M2 DDR_DQ4_A, N1 DDR_DQS1P_A, N2 DDR_DQS1N_A, P2 DDR_DQ8_A, R1 DDR_DQ9_A, R2 DDR_DQ10_A, T2 DDR_DQ11_A
part D pins: 1H4 SYSPLL_AVDD_1V8, 1H5 SYSPLL_AVDD_0V9, 1J5 SYSPLL_AVSS, 1M18 TVSS, 1M19 GPIO0_D4_d, 1N15 PMUIO2, 1N16 PMU_VDD_LOGIC_0V9, 1N17 PMUPLL_AVSS, 1N18 PMUPLL_AVDD_1V8, 1N19 GPIO0_D3_d, 1N20 GPIO0_D5_d, 1P16 PMUIO1, 1P17 PMUPLL_AVDD_0V9, 1P18 GPIO0_A0_d, 1P19 GPIO0_A2_d, 1P20 GPIO0_D6_d, 1R16 GPIO0_B6_u, 1R17 GPIO0_B7_d, 1R18 GPIO0_C1_d, 1R19 GPIO0_A3_u, 1R20 GPIO0_A1_z, 1T18 GPIO0_C6_d, 1T19 GPIO0_C0_d, 1T20 GPIO0_B0_u, 1U18 GPIO0_D1_u, 1U19 GPIO0_C5_d, 1U20 GPIO0_B5_u, 1V19 GPIO0_D0_u, 1V20 GPIO0_C7_d, AD37 XIN24M, AD38 XOUT24M, AF37 GPIO0_A4_u, AF38 GPIO0_A7_u, AG37 GPIO0_A5_d, AG38 nPOR_u, AJ37 GPIO0_B1_u, AJ38 GPIO0_A6_d, AK37 GPIO0_B3_u, AK38 GPIO0_B2_u, AM37 GPIO0_C2_d, AM38 GPIO0_B4_u, AN37 GPIO0_C4_d, AN38 GPIO0_C3_d
part E pins: 1A13 GPIO1_A4_d, 1A14 GPIO1_A6_d, 1A15 GPIO1_D0_d, 1A16 GPIO1_C6_d, 1A17 GPIO1_D1_u, 1A18 GPIO1_D2_u, 1A20 GPIO2_A6_u, 1B13 GPIO1_B0_d, 1B14 GPIO1_B3_d, 1B16 GPIO1_C7_d, 1B17 GPIO1_D3_u, 1B20 GPIO2_C4_d, 1C13 VCCIO2, 1C15 GPIO1_D4_u, 1C19 GPIO2_A3_u, 1C20 GPIO2_B3_u, 1D13 VCCIO1, 1D18 GPIO2_A5_u, 1D19 GPIO2_C3_d, 1D20 GPIO1_D7_u, 1E16 VCCIO4, 1E18 GPIO2_A4_u, 1E19 GPIO2_A1_u, 1E20 GPIO1_D5_u, 1F17 VCCIO3, 1F18 GPIO2_A0_u, 1F19 GPIO1_D6_u, A22 GPIO1_A0_u, A23 GPIO1_A2_d, A26 GPIO1_B1_d, A27 GPIO1_C4_u, A29 GPIO1_C5_d, A30 GPIO1_C1_u, A32 GPIO1_B4_u, A33 GPIO1_C3_u, A35 GPIO2_B1_d, A37 GPIO2_C0_d, B22 GPIO1_A1_u, B23 GPIO1_A3_d, B24 GPIO1_A5_d, B25 GPIO1_A7_d, B26 GPIO1_B2_d, B27 GPIO1_B5_u, B29 GPIO1_B7_u, B30 GPIO1_C2_u, B32 GPIO1_B6_u, B33 GPIO1_C0_u, B34 GPIO2_B2_u, B35 GPIO2_A7_u, B36 GPIO2_C1_d, B37 GPIO2_B0_d, B38 GPIO2_C6_d, C37 GPIO2_C2_d, D37 GPIO2_C5_d, D38 GPIO2_B7_d, F37 GPIO2_B5_u, F38 GPIO2_B4_u, G37 GPIO2_B6_u, G38 GPIO2_A2_d
part F pins: 1A19 SARADC_VIN3, 1B18 SARADC_VIN2, 1C17 SARADC_VIN1, 1D15 OTP_VCC18, 1D16 SARADC_AVDD_1V8, 1D17 SARADC_VIN0, 1L1 GPIO4_B6_d, 1L2 GPIO4_B0_d, 1L4 VCCIO6_1, 1L5 VCCIO6_2, 1N1 GPIO4_A7_d, 1N2 GPIO4_A4_d, 1N5 VCCIO5_1, 1N6 VCCIO5_2, 1N8 VCCIO7, 1P2 GPIO4_A1_d, 1P3 GPIO3_C4_d, 1P4 GPIO3_C5_d, 1R1 GPIO4_A2_d, 1R2 GPIO3_D4_d, 1T1 GPIO3_D5_d, 1T2 GPIO3_C6_d, 1T4 GPIO3_B5_d, 1T6 GPIO4_C6_d, 1U1 GPIO3_C7_d, 1U3 GPIO3_B4_d, 1U4 GPIO3_A6_d, 1U5 GPIO3_A1_d, 1U6 GPIO4_C5_d, 1U7 GPIO4_C2_d, 1V2 GPIO3_B6_d, 1V3 GPIO3_A7_d, 1V5 GPIO4_D1_u, 1V6 GPIO4_C4_d, AB1 GPIO4_C1_d, AB2 GPIO4_C0_d, AC2 GPIO4_B7_d, AD1 GPIO4_B5_d, AE2 GPIO4_B3_d, AF1 GPIO4_B4_d, AF2 GPIO4_B2_d, AG2 GPIO4_B1_d, AH2 GPIO4_A6_d, AJ1 GPIO4_A5_d, AJ2 GPIO4_A3_d, AK2 GPIO4_A0_d, AL1 GPIO3_D7_d, AL2 GPIO3_D6_d, AM1 GPIO3_D3_d, AM2 GPIO3_D2_d, AN2 GPIO3_D1_d, AP1 GPIO3_D0_d, AP3 GPIO3_C2_d, AP4 GPIO3_C1_d, AP5 GPIO3_B7_d, AP6 GPIO3_B3_d, AP7 GPIO3_B1_d, AP9 GPIO3_A5_d, AP10 GPIO3_A3_d, AP11 GPIO4_D0_u, AP12 GPIO4_C3_d, AR2 GPIO3_C3_d, AR4 GPIO3_C0_d, AR6 GPIO3_B2_d, AR7 GPIO3_B0_d, AR9 GPIO3_A4_d, AR10 GPIO3_A2_d, AR12 GPIO4_C7_u
part G pins: 1N9 MIPI_CSI_RX_AVDD_0V9, 1N10 MIPI_DSI_TX1_AVDD_0V9, 1N13 HDMI_TX_AVDD_0V9_2, 1N14 HDMI_TX_AVDD_0V9_1, 1P9 MIPI_CSI_RX_AVDD_1V8, 1P11 MIPI_DSI_TX0/LVDS_TX0_AVDD_0V9, 1P12 MIPI_DSI_TX0/LVDS_TX0_AVDD_1V8, 1P13 HDMI_TX_AVDD_1V8, 1R10 MIPI_DSI_TX1_AVDD_1V8, 1U8 MIPI_CSI_RX_CLK1N, 1U9 MIPI_CSI_RX_CLK0N, 1U11 MIPI_DSI_TX1_CLKN, 1U16 HDMI_TX_REXT, 1V8 MIPI_CSI_RX_CLK1P, 1V9 MIPI_CSI_RX_CLK0P, 1V11 MIPI_DSI_TX1_CLKP, 1V15 MIPI_DSI_TX0_CLKN/LVDS_TX0_CLKN, 1V16 MIPI_DSI_TX0_CLKP/LVDS_TX0_CLKP, 1V17 HDMI_TX_HPDIN, AP14 MIPI_CSI_RX_D3N, AP15 MIPI_CSI_RX_D2P, AP17 MIPI_CSI_RX_D1N, AP18 MIPI_CSI_RX_D0P, AP20 MIPI_DSI_TX1_D3N, AP21 MIPI_DSI_TX1_D2P, AP23 MIPI_DSI_TX1_D1N, AP24 MIPI_DSI_TX1_D0P, AP26 MIPI_DSI_TX0_D3N/LVDS_TX0_D3N, AP27 MIPI_DSI_TX0_D2P/LVDS_TX0_D2P, AP29 MIPI_DSI_TX0_D1N/LVDS_TX0_D1N, AP30 MIPI_DSI_TX0_D0P/LVDS_TX0_D0P, AP32 HDMI_TX_CLKN, AP33 HDMI_TX_D0P, AP35 HDMI_TX_D1N, AP36 HDMI_TX_D2P, AR14 MIPI_CSI_RX_D3P, AR15 MIPI_CSI_RX_D2N, AR17 MIPI_CSI_RX_D1P, AR18 MIPI_CSI_RX_D0N, AR20 MIPI_DSI_TX1_D3P, AR21 MIPI_DSI_TX1_D2N, AR23 MIPI_DSI_TX1_D1P, AR24 MIPI_DSI_TX1_D0N, AR26 MIPI_DSI_TX0_D3P/LVDS_TX0_D3P, AR27 MIPI_DSI_TX0_D2N/LVDS_TX0_D2N, AR29 MIPI_DSI_TX0_D1P/LVDS_TX0_D1P, AR30 MIPI_DSI_TX0_D0N/LVDS_TX0_D0N, AR32 HDMI_TX_CLKP, AR33 HDMI_TX_D0N, AR35 HDMI_TX_D1P, AR36 HDMI_TX_D2N
part H pins: 1G17 EDP_TX_AVDD_1V8, 1H16 USB_AVDD1_1V8, 1H17 EDP_TX_AVDD_0V9, 1H18 USB_AVDD1_3V3, 1H19 EDP_TX_AUXP, 1H20 EDP_TX_AUXN, 1J2 USB_AVDD2_3V3, 1J3 USB_AVDD2_1V8, 1J4 USB_AVDD2_0V9, 1J17 USB_AVDD1_0V9, 1J19 USB_HOST1_DP, 1J20 USB_HOST1_DM, 1K16 MULTI_PHY_AVDD_0V9, 1K17 MULTI_PHY_AVDD_1V8, 1K19 PCIE20_REFCLKP, 1K20 PCIE20_REFCLKN, AA37 PCIE20_TXP/SATA2_TXP, AA38 PCIE20_TXN/SATA2_TXN, AB37 PCIE20_RXP/SATA2_RXP, AB38 PCIE20_RXN/SATA2_RXN, J37 EDP_TX_D0P, J38 EDP_TX_D0N, K37 EDP_TX_D1N, K38 EDP_TX_D1P, M37 EDP_TX_D2P, M38 EDP_TX_D2N, N37 EDP_TX_D3P, N38 EDP_TX_D3N, R37 USB_OTG0_DP, R38 USB_OTG0_DM, T37 USB_OTG0_ID, T38 USB_OTG0_VBUSDET, V1 USB_HOST2_DM, V2 USB_HOST2_DP, V37 USB3_HOST1_SSRXN/SATA1_RXN, V38 USB3_HOST1_SSRXP/SATA1_RXP, W37 USB3_HOST1_SSTXP/SATA1_TXP, W38 USB3_HOST1_SSTXN/SATA1_TXN, Y1 USB_HOST3_DM, Y2 USB_HOST3_DP

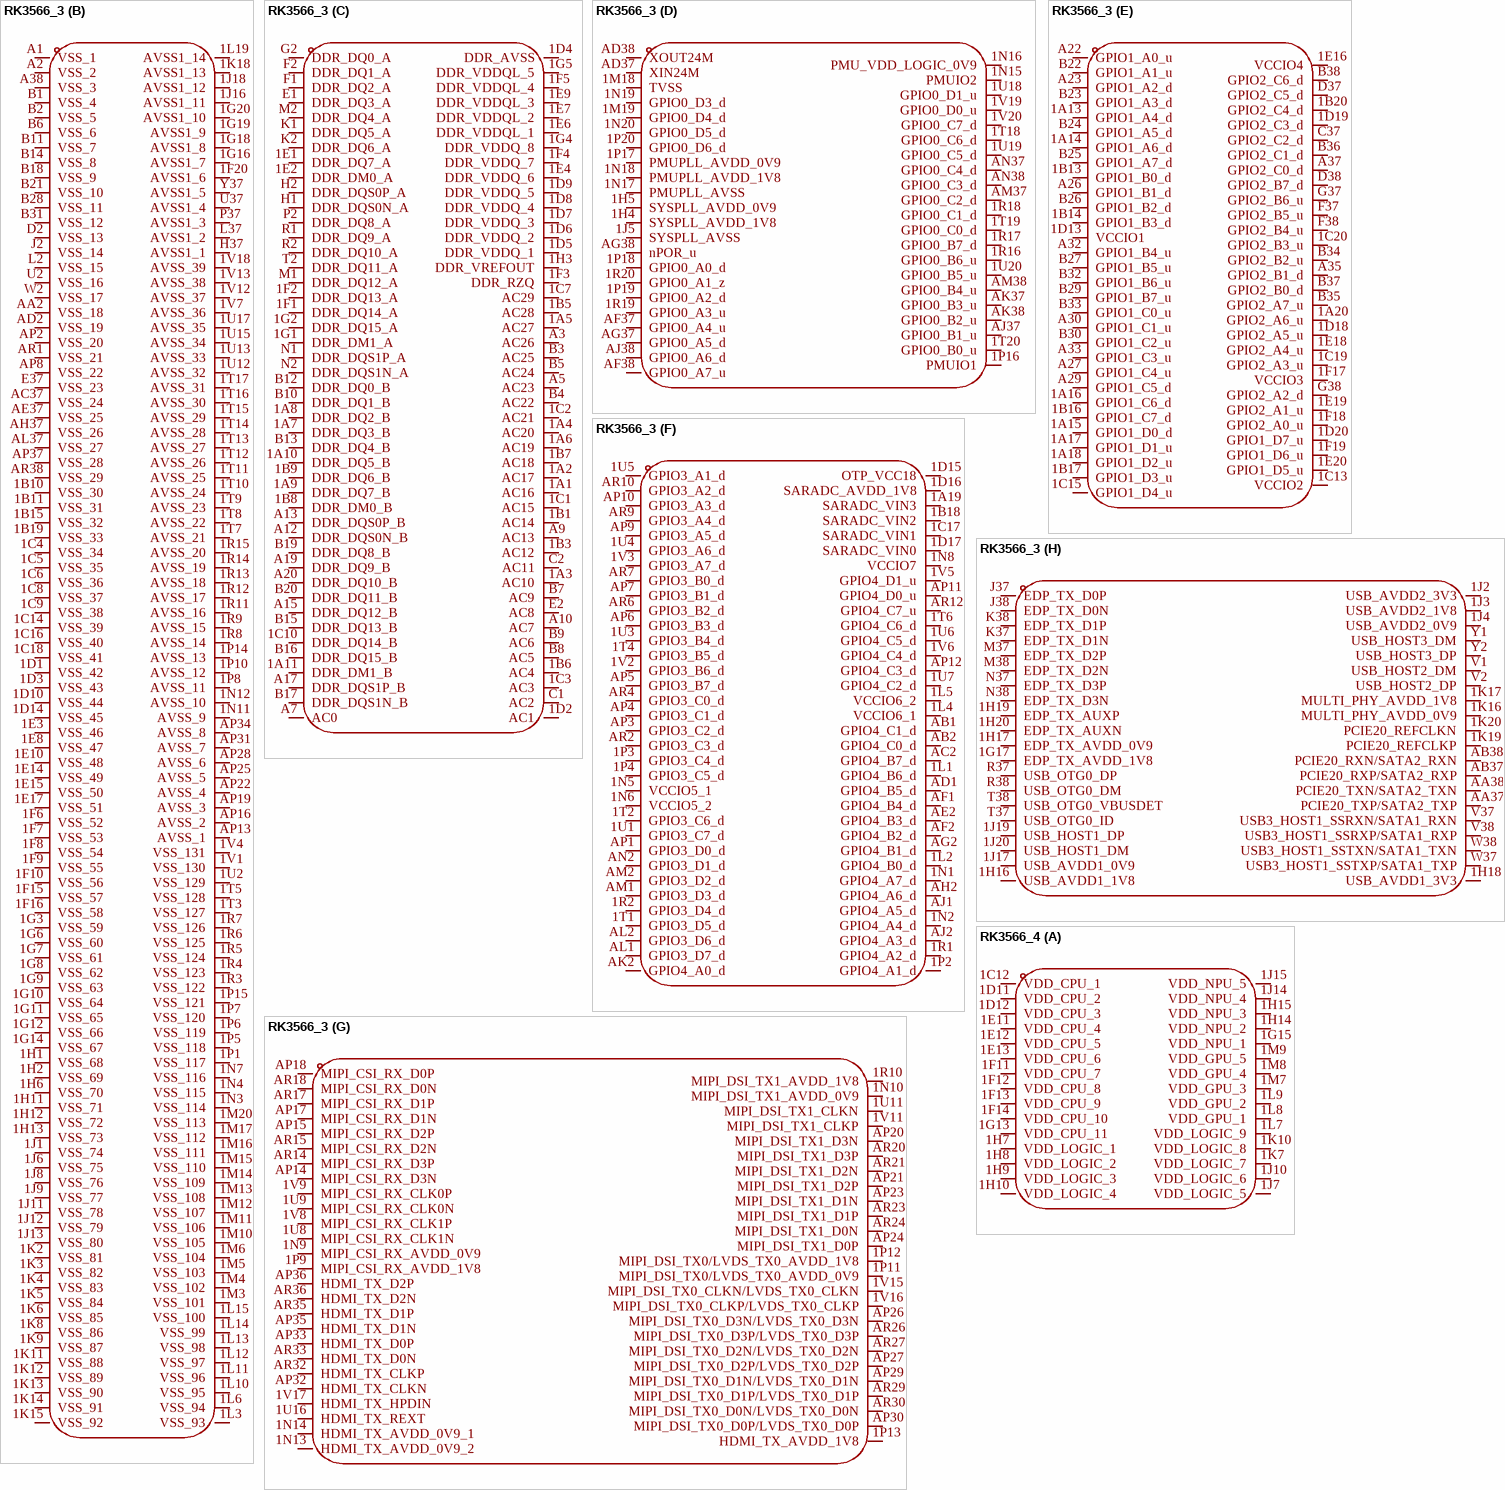
[diagram p10: symbols RK3566_3 to RK3566_4]

## RK3566_3
designator U?, comment RK3566  (value not drawn)
Manufacturer: Rockchip(瑞芯微); Add into BOM: yes; Symbol: RK3566; Device: RK3566; LCSC Part Name: RK3566; Supplier Part: C2943786; Manufacturer Part: RK3566; Supplier Footprint: BGA-565(15.5x14.4); JLCPCB Part Class: Extended Part; Datasheet: https://atta.szlcsc.com/upload/public/pdf/source/20240126/58C1D355804B22318A1D6A9C85EA3A92.pdf; Supplier: LCSC; Convert to PCB: yes
footprint BGA-565_L15.5-W14.4-P0.40_RK3566_1
3D model BGA-565_L15.5-W14.4-P0.40_RK3566_1
part A pins: 1C12 VDD_CPU_1, 1D11 VDD_CPU_2, 1D12 VDD_CPU_3, 1E11 VDD_CPU_4, 1E12 VDD_CPU_5, 1E13 VDD_CPU_6, 1F11 VDD_CPU_7, 1F12 VDD_CPU_8, 1F13 VDD_CPU_9, 1F14 VDD_CPU_10, 1G13 VDD_CPU_11, 1G15 VDD_NPU_1, 1H7 VDD_LOGIC_1, 1H8 VDD_LOGIC_2, 1H9 VDD_LOGIC_3, 1H10 VDD_LOGIC_4, 1H14 VDD_NPU_2, 1H15 VDD_NPU_3, 1J7 VDD_LOGIC_5, 1J10 VDD_LOGIC_6, 1J14 VDD_NPU_4, 1J15 VDD_NPU_5, 1K7 VDD_LOGIC_7, 1K10 VDD_LOGIC_8, 1L7 VDD_LOGIC_9, 1L8 VDD_GPU_1, 1L9 VDD_GPU_2, 1M7 VDD_GPU_3, 1M8 VDD_GPU_4, 1M9 VDD_GPU_5
part B pins: 1B10 VSS_30, 1B11 VSS_31, 1B15 VSS_32, 1B19 VSS_33, 1C4 VSS_34, 1C5 VSS_35, 1C6 VSS_36, 1C8 VSS_37, 1C9 VSS_38, 1C14 VSS_39, 1C16 VSS_40, 1C18 VSS_41, 1D1 VSS_42, 1D3 VSS_43, 1D10 VSS_44, 1D14 VSS_45, 1E3 VSS_46, 1E8 VSS_47, 1E10 VSS_48, 1E14 VSS_49, 1E15 VSS_50, 1E17 VSS_51, 1F6 VSS_52, 1F7 VSS_53, 1F8 VSS_54, 1F9 VSS_55, 1F10 VSS_56, 1F15 VSS_57, 1F16 VSS_58, 1F20 AVSS1_6, 1G3 VSS_59, 1G6 VSS_60, 1G7 VSS_61, 1G8 VSS_62, 1G9 VSS_63, 1G10 VSS_64, 1G11 VSS_65, 1G12 VSS_66, 1G14 VSS_67, 1G16 AVSS1_7, 1G18 AVSS1_8, 1G19 AVSS1_9, 1G20 AVSS1_10, 1H1 VSS_68, 1H2 VSS_69, 1H6 VSS_70, 1H11 VSS_71, 1H12 VSS_72, 1H13 VSS_73, 1J1 VSS_74, 1J6 VSS_75, 1J8 VSS_76, 1J9 VSS_77, 1J11 VSS_78, 1J12 VSS_79, 1J13 VSS_80, 1J16 AVSS1_11, 1J18 AVSS1_12, 1K2 VSS_81, 1K3 VSS_82, 1K4 VSS_83, 1K5 VSS_84, 1K6 VSS_85, 1K8 VSS_86, 1K9 VSS_87, 1K11 VSS_88, 1K12 VSS_89, 1K13 VSS_90, 1K14 VSS_91, 1K15 VSS_92, 1K18 AVSS1_13, 1L3 VSS_93, 1L6 VSS_94, 1L10 VSS_95, 1L11 VSS_96, 1L12 VSS_97, 1L13 VSS_98, 1L14 VSS_99, 1L15 VSS_100, 1L19 AVSS1_14, 1M3 VSS_101, 1M4 VSS_102, 1M5 VSS_103, 1M6 VSS_104, 1M10 VSS_105, 1M11 VSS_106, 1M12 VSS_107, 1M13 VSS_108, 1M14 VSS_109, 1M15 VSS_110, 1M16 VSS_111, 1M17 VSS_112, 1M20 VSS_113, 1N3 VSS_114, 1N4 VSS_115, 1N7 VSS_116, 1N11 AVSS_9, 1N12 AVSS_10, 1P1 VSS_117, 1P5 VSS_118, 1P6 VSS_119, 1P7 VSS_120, 1P8 AVSS_11, 1P10 AVSS_12, 1P14 AVSS_13, 1P15 VSS_121, 1R3 VSS_122, 1R4 VSS_123, 1R5 VSS_124, 1R6 VSS_125, 1R7 VSS_126, 1R8 AVSS_14, 1R9 AVSS_15, 1R11 AVSS_16, 1R12 AVSS_17, 1R13 AVSS_18, 1R14 AVSS_19, 1R15 AVSS_20, 1T3 VSS_127, 1T5 VSS_128, 1T7 AVSS_21, 1T8 AVSS_22, 1T9 AVSS_23, 1T10 AVSS_24, 1T11 AVSS_25, 1T12 AVSS_26, 1T13 AVSS_27, 1T14 AVSS_28, 1T15 AVSS_29, 1T16 AVSS_30, 1T17 AVSS_31, 1U2 VSS_129, 1U12 AVSS_32, 1U13 AVSS_33, 1U15 AVSS_34, 1U17 AVSS_35, 1V1 VSS_130, 1V4 VSS_131, 1V7 AVSS_36, 1V12 AVSS_37, 1V13 AVSS_38, 1V18 AVSS_39, A1 VSS_1, A2 VSS_2, A38 VSS_3, AA2 VSS_18, AC37 VSS_24, AD2 VSS_19, AE37 VSS_25, AH37 VSS_26, AL37 VSS_27, AP2 VSS_20, AP8 VSS_22, AP13 AVSS_1, AP16 AVSS_2, AP19 AVSS_3, AP22 AVSS_4, AP25 AVSS_5, AP28 AVSS_6, AP31 AVSS_7, AP34 AVSS_8, AP37 VSS_28, AR1 VSS_21, AR38 VSS_29, B1 VSS_4, B2 VSS_5, B6 VSS_6, B11 VSS_7, B14 VSS_8, B18 VSS_9, B21 VSS_10, B28 VSS_11, B31 VSS_12, D2 VSS_13, E37 VSS_23, H37 AVSS1_1, J2 VSS_14, L2 VSS_15, L37 AVSS1_2, P37 AVSS1_3, U2 VSS_16, U37 AVSS1_4, W2 VSS_17, Y37 AVSS1_5
part C pins: 1A1 AC16, 1A2 AC17, 1A3 AC10, 1A4 AC20, 1A5 AC27, 1A6 AC19, 1A7 DDR_DQ3_B, 1A8 DDR_DQ2_B, 1A9 DDR_DQ7_B, 1A10 DDR_DQ5_B, 1A11 DDR_DM1_B, 1B1 AC14, 1B3 AC12, 1B5 AC28, 1B6 AC4, 1B7 AC18, 1B8 DDR_DM0_B, 1B9 DDR_DQ6_B, 1C1 AC15, 1C2 AC21, 1C3 AC3, 1C7 AC29, 1C10 DDR_DQ14_B, 1D2 AC1, 1D4 DDR_AVSS, 1D5 DDR_VDDQ_1, 1D6 DDR_VDDQ_2, 1D7 DDR_VDDQ_3, 1D8 DDR_VDDQ_4, 1D9 DDR_VDDQ_5, 1E1 DDR_DQ7_A, 1E2 DDR_DM0_A, 1E4 DDR_VDDQ_6, 1E6 DDR_VDDQL_1, 1E7 DDR_VDDQL_2, 1E9 DDR_VDDQL_3, 1F1 DDR_DQ14_A, 1F2 DDR_DQ13_A, 1F3 DDR_RZQ, 1F4 DDR_VDDQ_7, 1F5 DDR_VDDQL_4, 1G1 DDR_DM1_A, 1G2 DDR_DQ15_A, 1G4 DDR_VDDQ_8, 1G5 DDR_VDDQL_5, 1H3 DDR_VREFOUT, A3 AC26, A5 AC23, A7 AC0, A9 AC13, A10 AC7, A12 DDR_DQS0N_B, A13 DDR_DQS0P_B, A15 DDR_DQ12_B, A17 DDR_DQS1P_B, A19 DDR_DQ9_B, A20 DDR_DQ10_B, B3 AC25, B4 AC22, B5 AC24, B7 AC9, B8 AC5, B9 AC6, B10 DDR_DQ1_B, B12 DDR_DQ0_B, B13 DDR_DQ4_B, B15 DDR_DQ13_B, B16 DDR_DQ15_B, B17 DDR_DQS1N_B, B19 DDR_DQ8_B, B20 DDR_DQ11_B, C1 AC2, C2 AC11, E1 DDR_DQ3_A, E2 AC8, F1 DDR_DQ2_A, F2 DDR_DQ1_A, G2 DDR_DQ0_A, H1 DDR_DQS0N_A, H2 DDR_DQS0P_A, K1 DDR_DQ5_A, K2 DDR_DQ6_A, M1 DDR_DQ12_A, M2 DDR_DQ4_A, N1 DDR_DQS1P_A, N2 DDR_DQS1N_A, P2 DDR_DQ8_A, R1 DDR_DQ9_A, R2 DDR_DQ10_A, T2 DDR_DQ11_A
part D pins: 1H4 SYSPLL_AVDD_1V8, 1H5 SYSPLL_AVDD_0V9, 1J5 SYSPLL_AVSS, 1M18 TVSS, 1M19 GPIO0_D4_d, 1N15 PMUIO2, 1N16 PMU_VDD_LOGIC_0V9, 1N17 PMUPLL_AVSS, 1N18 PMUPLL_AVDD_1V8, 1N19 GPIO0_D3_d, 1N20 GPIO0_D5_d, 1P16 PMUIO1, 1P17 PMUPLL_AVDD_0V9, 1P18 GPIO0_A0_d, 1P19 GPIO0_A2_d, 1P20 GPIO0_D6_d, 1R16 GPIO0_B6_u, 1R17 GPIO0_B7_d, 1R18 GPIO0_C1_d, 1R19 GPIO0_A3_u, 1R20 GPIO0_A1_z, 1T18 GPIO0_C6_d, 1T19 GPIO0_C0_d, 1T20 GPIO0_B0_u, 1U18 GPIO0_D1_u, 1U19 GPIO0_C5_d, 1U20 GPIO0_B5_u, 1V19 GPIO0_D0_u, 1V20 GPIO0_C7_d, AD37 XIN24M, AD38 XOUT24M, AF37 GPIO0_A4_u, AF38 GPIO0_A7_u, AG37 GPIO0_A5_d, AG38 nPOR_u, AJ37 GPIO0_B1_u, AJ38 GPIO0_A6_d, AK37 GPIO0_B3_u, AK38 GPIO0_B2_u, AM37 GPIO0_C2_d, AM38 GPIO0_B4_u, AN37 GPIO0_C4_d, AN38 GPIO0_C3_d
part E pins: 1A13 GPIO1_A4_d, 1A14 GPIO1_A6_d, 1A15 GPIO1_D0_d, 1A16 GPIO1_C6_d, 1A17 GPIO1_D1_u, 1A18 GPIO1_D2_u, 1A20 GPIO2_A6_u, 1B13 GPIO1_B0_d, 1B14 GPIO1_B3_d, 1B16 GPIO1_C7_d, 1B17 GPIO1_D3_u, 1B20 GPIO2_C4_d, 1C13 VCCIO2, 1C15 GPIO1_D4_u, 1C19 GPIO2_A3_u, 1C20 GPIO2_B3_u, 1D13 VCCIO1, 1D18 GPIO2_A5_u, 1D19 GPIO2_C3_d, 1D20 GPIO1_D7_u, 1E16 VCCIO4, 1E18 GPIO2_A4_u, 1E19 GPIO2_A1_u, 1E20 GPIO1_D5_u, 1F17 VCCIO3, 1F18 GPIO2_A0_u, 1F19 GPIO1_D6_u, A22 GPIO1_A0_u, A23 GPIO1_A2_d, A26 GPIO1_B1_d, A27 GPIO1_C4_u, A29 GPIO1_C5_d, A30 GPIO1_C1_u, A32 GPIO1_B4_u, A33 GPIO1_C3_u, A35 GPIO2_B1_d, A37 GPIO2_C0_d, B22 GPIO1_A1_u, B23 GPIO1_A3_d, B24 GPIO1_A5_d, B25 GPIO1_A7_d, B26 GPIO1_B2_d, B27 GPIO1_B5_u, B29 GPIO1_B7_u, B30 GPIO1_C2_u, B32 GPIO1_B6_u, B33 GPIO1_C0_u, B34 GPIO2_B2_u, B35 GPIO2_A7_u, B36 GPIO2_C1_d, B37 GPIO2_B0_d, B38 GPIO2_C6_d, C37 GPIO2_C2_d, D37 GPIO2_C5_d, D38 GPIO2_B7_d, F37 GPIO2_B5_u, F38 GPIO2_B4_u, G37 GPIO2_B6_u, G38 GPIO2_A2_d
part F pins: 1A19 SARADC_VIN3, 1B18 SARADC_VIN2, 1C17 SARADC_VIN1, 1D15 OTP_VCC18, 1D16 SARADC_AVDD_1V8, 1D17 SARADC_VIN0, 1L1 GPIO4_B6_d, 1L2 GPIO4_B0_d, 1L4 VCCIO6_1, 1L5 VCCIO6_2, 1N1 GPIO4_A7_d, 1N2 GPIO4_A4_d, 1N5 VCCIO5_1, 1N6 VCCIO5_2, 1N8 VCCIO7, 1P2 GPIO4_A1_d, 1P3 GPIO3_C4_d, 1P4 GPIO3_C5_d, 1R1 GPIO4_A2_d, 1R2 GPIO3_D4_d, 1T1 GPIO3_D5_d, 1T2 GPIO3_C6_d, 1T4 GPIO3_B5_d, 1T6 GPIO4_C6_d, 1U1 GPIO3_C7_d, 1U3 GPIO3_B4_d, 1U4 GPIO3_A6_d, 1U5 GPIO3_A1_d, 1U6 GPIO4_C5_d, 1U7 GPIO4_C2_d, 1V2 GPIO3_B6_d, 1V3 GPIO3_A7_d, 1V5 GPIO4_D1_u, 1V6 GPIO4_C4_d, AB1 GPIO4_C1_d, AB2 GPIO4_C0_d, AC2 GPIO4_B7_d, AD1 GPIO4_B5_d, AE2 GPIO4_B3_d, AF1 GPIO4_B4_d, AF2 GPIO4_B2_d, AG2 GPIO4_B1_d, AH2 GPIO4_A6_d, AJ1 GPIO4_A5_d, AJ2 GPIO4_A3_d, AK2 GPIO4_A0_d, AL1 GPIO3_D7_d, AL2 GPIO3_D6_d, AM1 GPIO3_D3_d, AM2 GPIO3_D2_d, AN2 GPIO3_D1_d, AP1 GPIO3_D0_d, AP3 GPIO3_C2_d, AP4 GPIO3_C1_d, AP5 GPIO3_B7_d, AP6 GPIO3_B3_d, AP7 GPIO3_B1_d, AP9 GPIO3_A5_d, AP10 GPIO3_A3_d, AP11 GPIO4_D0_u, AP12 GPIO4_C3_d, AR2 GPIO3_C3_d, AR4 GPIO3_C0_d, AR6 GPIO3_B2_d, AR7 GPIO3_B0_d, AR9 GPIO3_A4_d, AR10 GPIO3_A2_d, AR12 GPIO4_C7_u
part G pins: 1N9 MIPI_CSI_RX_AVDD_0V9, 1N10 MIPI_DSI_TX1_AVDD_0V9, 1N13 HDMI_TX_AVDD_0V9_2, 1N14 HDMI_TX_AVDD_0V9_1, 1P9 MIPI_CSI_RX_AVDD_1V8, 1P11 MIPI_DSI_TX0/LVDS_TX0_AVDD_0V9, 1P12 MIPI_DSI_TX0/LVDS_TX0_AVDD_1V8, 1P13 HDMI_TX_AVDD_1V8, 1R10 MIPI_DSI_TX1_AVDD_1V8, 1U8 MIPI_CSI_RX_CLK1N, 1U9 MIPI_CSI_RX_CLK0N, 1U11 MIPI_DSI_TX1_CLKN, 1U16 HDMI_TX_REXT, 1V8 MIPI_CSI_RX_CLK1P, 1V9 MIPI_CSI_RX_CLK0P, 1V11 MIPI_DSI_TX1_CLKP, 1V15 MIPI_DSI_TX0_CLKN/LVDS_TX0_CLKN, 1V16 MIPI_DSI_TX0_CLKP/LVDS_TX0_CLKP, 1V17 HDMI_TX_HPDIN, AP14 MIPI_CSI_RX_D3N, AP15 MIPI_CSI_RX_D2P, AP17 MIPI_CSI_RX_D1N, AP18 MIPI_CSI_RX_D0P, AP20 MIPI_DSI_TX1_D3N, AP21 MIPI_DSI_TX1_D2P, AP23 MIPI_DSI_TX1_D1N, AP24 MIPI_DSI_TX1_D0P, AP26 MIPI_DSI_TX0_D3N/LVDS_TX0_D3N, AP27 MIPI_DSI_TX0_D2P/LVDS_TX0_D2P, AP29 MIPI_DSI_TX0_D1N/LVDS_TX0_D1N, AP30 MIPI_DSI_TX0_D0P/LVDS_TX0_D0P, AP32 HDMI_TX_CLKN, AP33 HDMI_TX_D0P, AP35 HDMI_TX_D1N, AP36 HDMI_TX_D2P, AR14 MIPI_CSI_RX_D3P, AR15 MIPI_CSI_RX_D2N, AR17 MIPI_CSI_RX_D1P, AR18 MIPI_CSI_RX_D0N, AR20 MIPI_DSI_TX1_D3P, AR21 MIPI_DSI_TX1_D2N, AR23 MIPI_DSI_TX1_D1P, AR24 MIPI_DSI_TX1_D0N, AR26 MIPI_DSI_TX0_D3P/LVDS_TX0_D3P, AR27 MIPI_DSI_TX0_D2N/LVDS_TX0_D2N, AR29 MIPI_DSI_TX0_D1P/LVDS_TX0_D1P, AR30 MIPI_DSI_TX0_D0N/LVDS_TX0_D0N, AR32 HDMI_TX_CLKP, AR33 HDMI_TX_D0N, AR35 HDMI_TX_D1P, AR36 HDMI_TX_D2N
part H pins: 1G17 EDP_TX_AVDD_1V8, 1H16 USB_AVDD1_1V8, 1H17 EDP_TX_AVDD_0V9, 1H18 USB_AVDD1_3V3, 1H19 EDP_TX_AUXP, 1H20 EDP_TX_AUXN, 1J2 USB_AVDD2_3V3, 1J3 USB_AVDD2_1V8, 1J4 USB_AVDD2_0V9, 1J17 USB_AVDD1_0V9, 1J19 USB_HOST1_DP, 1J20 USB_HOST1_DM, 1K16 MULTI_PHY_AVDD_0V9, 1K17 MULTI_PHY_AVDD_1V8, 1K19 PCIE20_REFCLKP, 1K20 PCIE20_REFCLKN, AA37 PCIE20_TXP/SATA2_TXP, AA38 PCIE20_TXN/SATA2_TXN, AB37 PCIE20_RXP/SATA2_RXP, AB38 PCIE20_RXN/SATA2_RXN, J37 EDP_TX_D0P, J38 EDP_TX_D0N, K37 EDP_TX_D1N, K38 EDP_TX_D1P, M37 EDP_TX_D2P, M38 EDP_TX_D2N, N37 EDP_TX_D3P, N38 EDP_TX_D3N, R37 USB_OTG0_DP, R38 USB_OTG0_DM, T37 USB_OTG0_ID, T38 USB_OTG0_VBUSDET, V1 USB_HOST2_DM, V2 USB_HOST2_DP, V37 USB3_HOST1_SSRXN/SATA1_RXN, V38 USB3_HOST1_SSRXP/SATA1_RXP, W37 USB3_HOST1_SSTXP/SATA1_TXP, W38 USB3_HOST1_SSTXN/SATA1_TXN, Y1 USB_HOST3_DM, Y2 USB_HOST3_DP

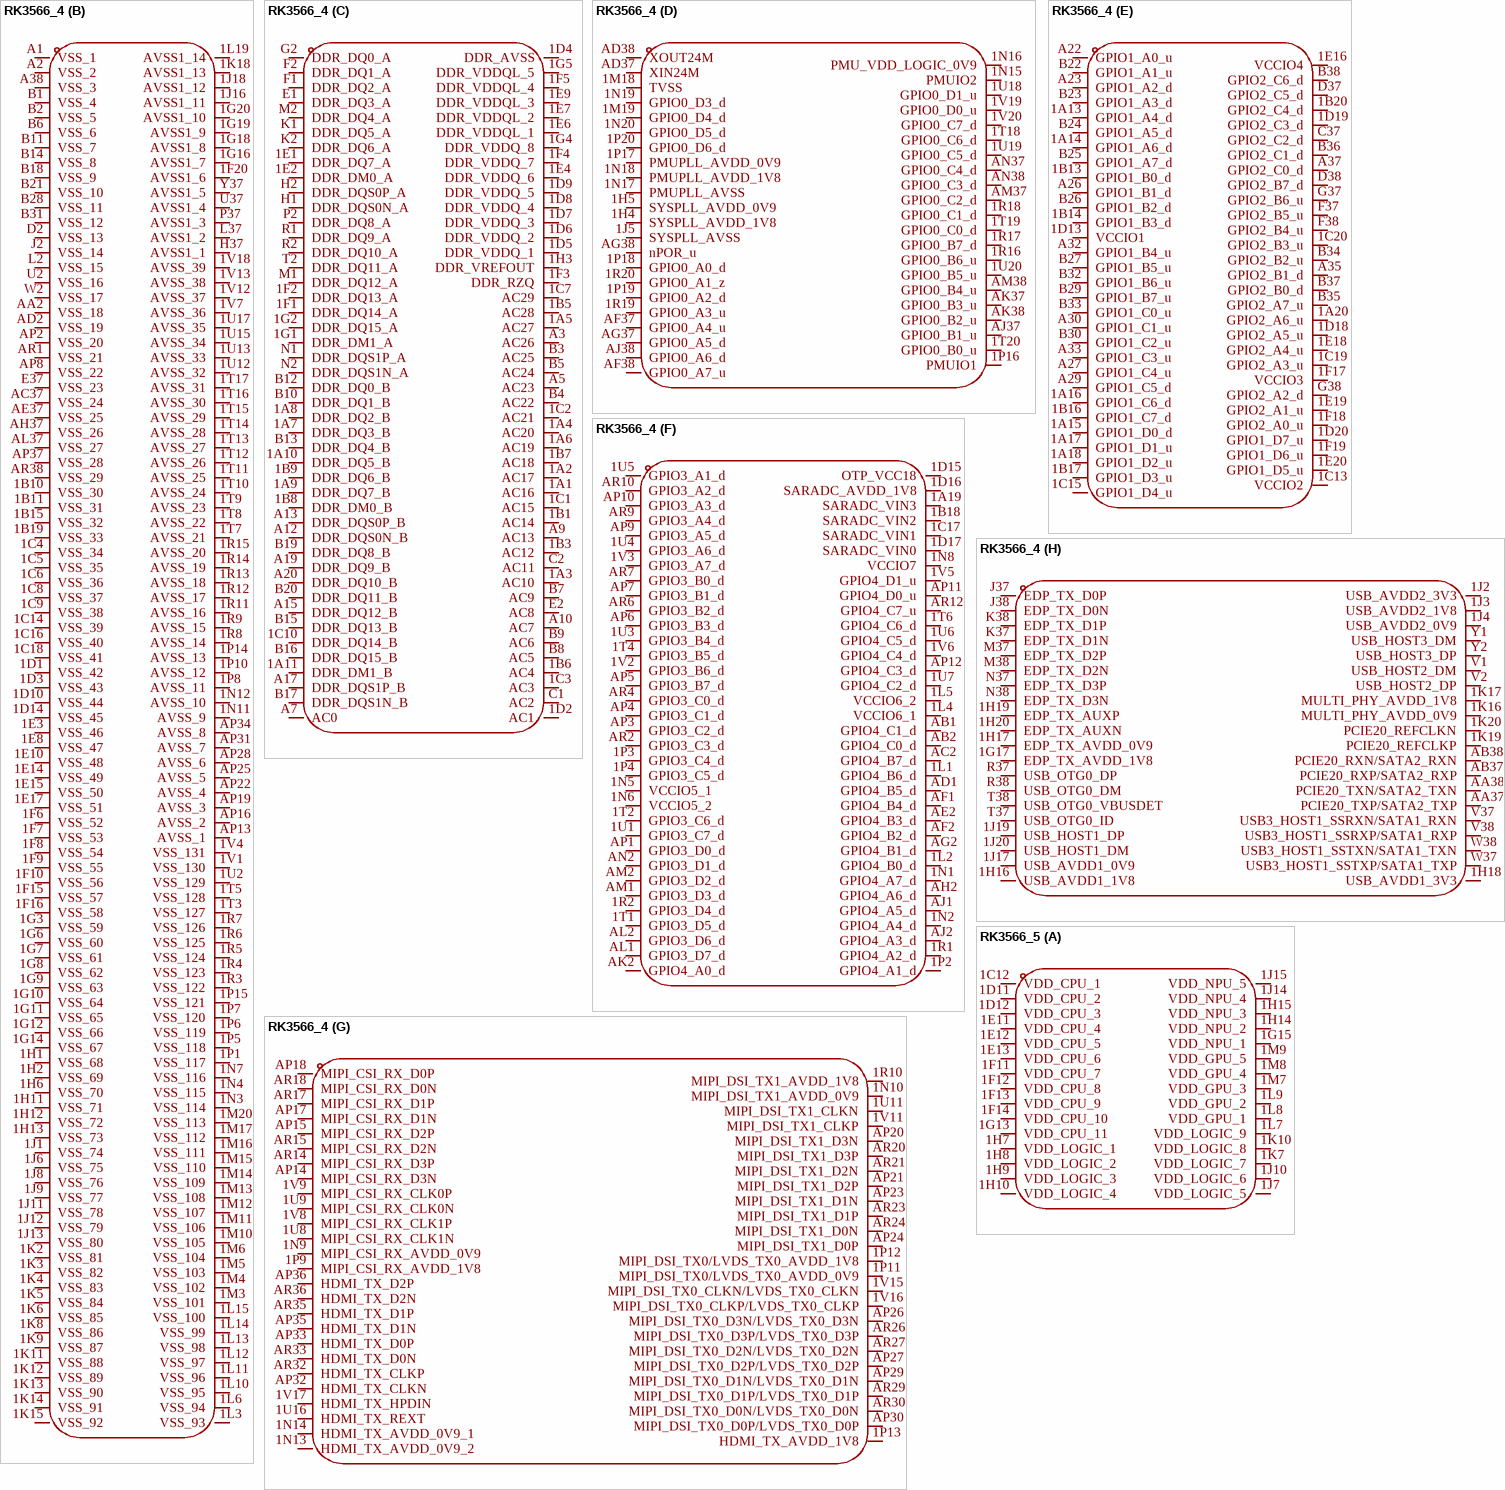
[diagram p11: symbols RK3566_4 to RK3566_5]

## RK3566_4
designator U?, comment RK3566  (value not drawn)
Manufacturer: Rockchip(瑞芯微); Add into BOM: yes; Symbol: RK3566; Device: RK3566; LCSC Part Name: RK3566; Supplier Part: C2943786; Manufacturer Part: RK3566; Supplier Footprint: BGA-565(15.5x14.4); JLCPCB Part Class: Extended Part; Datasheet: https://atta.szlcsc.com/upload/public/pdf/source/20240126/58C1D355804B22318A1D6A9C85EA3A92.pdf; Supplier: LCSC; Convert to PCB: yes
footprint BGA-565_L15.5-W14.4-P0.40_RK3566_1
3D model BGA-565_L15.5-W14.4-P0.40_RK3566_1
part A pins: 1C12 VDD_CPU_1, 1D11 VDD_CPU_2, 1D12 VDD_CPU_3, 1E11 VDD_CPU_4, 1E12 VDD_CPU_5, 1E13 VDD_CPU_6, 1F11 VDD_CPU_7, 1F12 VDD_CPU_8, 1F13 VDD_CPU_9, 1F14 VDD_CPU_10, 1G13 VDD_CPU_11, 1G15 VDD_NPU_1, 1H7 VDD_LOGIC_1, 1H8 VDD_LOGIC_2, 1H9 VDD_LOGIC_3, 1H10 VDD_LOGIC_4, 1H14 VDD_NPU_2, 1H15 VDD_NPU_3, 1J7 VDD_LOGIC_5, 1J10 VDD_LOGIC_6, 1J14 VDD_NPU_4, 1J15 VDD_NPU_5, 1K7 VDD_LOGIC_7, 1K10 VDD_LOGIC_8, 1L7 VDD_LOGIC_9, 1L8 VDD_GPU_1, 1L9 VDD_GPU_2, 1M7 VDD_GPU_3, 1M8 VDD_GPU_4, 1M9 VDD_GPU_5
part B pins: 1B10 VSS_30, 1B11 VSS_31, 1B15 VSS_32, 1B19 VSS_33, 1C4 VSS_34, 1C5 VSS_35, 1C6 VSS_36, 1C8 VSS_37, 1C9 VSS_38, 1C14 VSS_39, 1C16 VSS_40, 1C18 VSS_41, 1D1 VSS_42, 1D3 VSS_43, 1D10 VSS_44, 1D14 VSS_45, 1E3 VSS_46, 1E8 VSS_47, 1E10 VSS_48, 1E14 VSS_49, 1E15 VSS_50, 1E17 VSS_51, 1F6 VSS_52, 1F7 VSS_53, 1F8 VSS_54, 1F9 VSS_55, 1F10 VSS_56, 1F15 VSS_57, 1F16 VSS_58, 1F20 AVSS1_6, 1G3 VSS_59, 1G6 VSS_60, 1G7 VSS_61, 1G8 VSS_62, 1G9 VSS_63, 1G10 VSS_64, 1G11 VSS_65, 1G12 VSS_66, 1G14 VSS_67, 1G16 AVSS1_7, 1G18 AVSS1_8, 1G19 AVSS1_9, 1G20 AVSS1_10, 1H1 VSS_68, 1H2 VSS_69, 1H6 VSS_70, 1H11 VSS_71, 1H12 VSS_72, 1H13 VSS_73, 1J1 VSS_74, 1J6 VSS_75, 1J8 VSS_76, 1J9 VSS_77, 1J11 VSS_78, 1J12 VSS_79, 1J13 VSS_80, 1J16 AVSS1_11, 1J18 AVSS1_12, 1K2 VSS_81, 1K3 VSS_82, 1K4 VSS_83, 1K5 VSS_84, 1K6 VSS_85, 1K8 VSS_86, 1K9 VSS_87, 1K11 VSS_88, 1K12 VSS_89, 1K13 VSS_90, 1K14 VSS_91, 1K15 VSS_92, 1K18 AVSS1_13, 1L3 VSS_93, 1L6 VSS_94, 1L10 VSS_95, 1L11 VSS_96, 1L12 VSS_97, 1L13 VSS_98, 1L14 VSS_99, 1L15 VSS_100, 1L19 AVSS1_14, 1M3 VSS_101, 1M4 VSS_102, 1M5 VSS_103, 1M6 VSS_104, 1M10 VSS_105, 1M11 VSS_106, 1M12 VSS_107, 1M13 VSS_108, 1M14 VSS_109, 1M15 VSS_110, 1M16 VSS_111, 1M17 VSS_112, 1M20 VSS_113, 1N3 VSS_114, 1N4 VSS_115, 1N7 VSS_116, 1N11 AVSS_9, 1N12 AVSS_10, 1P1 VSS_117, 1P5 VSS_118, 1P6 VSS_119, 1P7 VSS_120, 1P8 AVSS_11, 1P10 AVSS_12, 1P14 AVSS_13, 1P15 VSS_121, 1R3 VSS_122, 1R4 VSS_123, 1R5 VSS_124, 1R6 VSS_125, 1R7 VSS_126, 1R8 AVSS_14, 1R9 AVSS_15, 1R11 AVSS_16, 1R12 AVSS_17, 1R13 AVSS_18, 1R14 AVSS_19, 1R15 AVSS_20, 1T3 VSS_127, 1T5 VSS_128, 1T7 AVSS_21, 1T8 AVSS_22, 1T9 AVSS_23, 1T10 AVSS_24, 1T11 AVSS_25, 1T12 AVSS_26, 1T13 AVSS_27, 1T14 AVSS_28, 1T15 AVSS_29, 1T16 AVSS_30, 1T17 AVSS_31, 1U2 VSS_129, 1U12 AVSS_32, 1U13 AVSS_33, 1U15 AVSS_34, 1U17 AVSS_35, 1V1 VSS_130, 1V4 VSS_131, 1V7 AVSS_36, 1V12 AVSS_37, 1V13 AVSS_38, 1V18 AVSS_39, A1 VSS_1, A2 VSS_2, A38 VSS_3, AA2 VSS_18, AC37 VSS_24, AD2 VSS_19, AE37 VSS_25, AH37 VSS_26, AL37 VSS_27, AP2 VSS_20, AP8 VSS_22, AP13 AVSS_1, AP16 AVSS_2, AP19 AVSS_3, AP22 AVSS_4, AP25 AVSS_5, AP28 AVSS_6, AP31 AVSS_7, AP34 AVSS_8, AP37 VSS_28, AR1 VSS_21, AR38 VSS_29, B1 VSS_4, B2 VSS_5, B6 VSS_6, B11 VSS_7, B14 VSS_8, B18 VSS_9, B21 VSS_10, B28 VSS_11, B31 VSS_12, D2 VSS_13, E37 VSS_23, H37 AVSS1_1, J2 VSS_14, L2 VSS_15, L37 AVSS1_2, P37 AVSS1_3, U2 VSS_16, U37 AVSS1_4, W2 VSS_17, Y37 AVSS1_5
part C pins: 1A1 AC16, 1A2 AC17, 1A3 AC10, 1A4 AC20, 1A5 AC27, 1A6 AC19, 1A7 DDR_DQ3_B, 1A8 DDR_DQ2_B, 1A9 DDR_DQ7_B, 1A10 DDR_DQ5_B, 1A11 DDR_DM1_B, 1B1 AC14, 1B3 AC12, 1B5 AC28, 1B6 AC4, 1B7 AC18, 1B8 DDR_DM0_B, 1B9 DDR_DQ6_B, 1C1 AC15, 1C2 AC21, 1C3 AC3, 1C7 AC29, 1C10 DDR_DQ14_B, 1D2 AC1, 1D4 DDR_AVSS, 1D5 DDR_VDDQ_1, 1D6 DDR_VDDQ_2, 1D7 DDR_VDDQ_3, 1D8 DDR_VDDQ_4, 1D9 DDR_VDDQ_5, 1E1 DDR_DQ7_A, 1E2 DDR_DM0_A, 1E4 DDR_VDDQ_6, 1E6 DDR_VDDQL_1, 1E7 DDR_VDDQL_2, 1E9 DDR_VDDQL_3, 1F1 DDR_DQ14_A, 1F2 DDR_DQ13_A, 1F3 DDR_RZQ, 1F4 DDR_VDDQ_7, 1F5 DDR_VDDQL_4, 1G1 DDR_DM1_A, 1G2 DDR_DQ15_A, 1G4 DDR_VDDQ_8, 1G5 DDR_VDDQL_5, 1H3 DDR_VREFOUT, A3 AC26, A5 AC23, A7 AC0, A9 AC13, A10 AC7, A12 DDR_DQS0N_B, A13 DDR_DQS0P_B, A15 DDR_DQ12_B, A17 DDR_DQS1P_B, A19 DDR_DQ9_B, A20 DDR_DQ10_B, B3 AC25, B4 AC22, B5 AC24, B7 AC9, B8 AC5, B9 AC6, B10 DDR_DQ1_B, B12 DDR_DQ0_B, B13 DDR_DQ4_B, B15 DDR_DQ13_B, B16 DDR_DQ15_B, B17 DDR_DQS1N_B, B19 DDR_DQ8_B, B20 DDR_DQ11_B, C1 AC2, C2 AC11, E1 DDR_DQ3_A, E2 AC8, F1 DDR_DQ2_A, F2 DDR_DQ1_A, G2 DDR_DQ0_A, H1 DDR_DQS0N_A, H2 DDR_DQS0P_A, K1 DDR_DQ5_A, K2 DDR_DQ6_A, M1 DDR_DQ12_A, M2 DDR_DQ4_A, N1 DDR_DQS1P_A, N2 DDR_DQS1N_A, P2 DDR_DQ8_A, R1 DDR_DQ9_A, R2 DDR_DQ10_A, T2 DDR_DQ11_A
part D pins: 1H4 SYSPLL_AVDD_1V8, 1H5 SYSPLL_AVDD_0V9, 1J5 SYSPLL_AVSS, 1M18 TVSS, 1M19 GPIO0_D4_d, 1N15 PMUIO2, 1N16 PMU_VDD_LOGIC_0V9, 1N17 PMUPLL_AVSS, 1N18 PMUPLL_AVDD_1V8, 1N19 GPIO0_D3_d, 1N20 GPIO0_D5_d, 1P16 PMUIO1, 1P17 PMUPLL_AVDD_0V9, 1P18 GPIO0_A0_d, 1P19 GPIO0_A2_d, 1P20 GPIO0_D6_d, 1R16 GPIO0_B6_u, 1R17 GPIO0_B7_d, 1R18 GPIO0_C1_d, 1R19 GPIO0_A3_u, 1R20 GPIO0_A1_z, 1T18 GPIO0_C6_d, 1T19 GPIO0_C0_d, 1T20 GPIO0_B0_u, 1U18 GPIO0_D1_u, 1U19 GPIO0_C5_d, 1U20 GPIO0_B5_u, 1V19 GPIO0_D0_u, 1V20 GPIO0_C7_d, AD37 XIN24M, AD38 XOUT24M, AF37 GPIO0_A4_u, AF38 GPIO0_A7_u, AG37 GPIO0_A5_d, AG38 nPOR_u, AJ37 GPIO0_B1_u, AJ38 GPIO0_A6_d, AK37 GPIO0_B3_u, AK38 GPIO0_B2_u, AM37 GPIO0_C2_d, AM38 GPIO0_B4_u, AN37 GPIO0_C4_d, AN38 GPIO0_C3_d
part E pins: 1A13 GPIO1_A4_d, 1A14 GPIO1_A6_d, 1A15 GPIO1_D0_d, 1A16 GPIO1_C6_d, 1A17 GPIO1_D1_u, 1A18 GPIO1_D2_u, 1A20 GPIO2_A6_u, 1B13 GPIO1_B0_d, 1B14 GPIO1_B3_d, 1B16 GPIO1_C7_d, 1B17 GPIO1_D3_u, 1B20 GPIO2_C4_d, 1C13 VCCIO2, 1C15 GPIO1_D4_u, 1C19 GPIO2_A3_u, 1C20 GPIO2_B3_u, 1D13 VCCIO1, 1D18 GPIO2_A5_u, 1D19 GPIO2_C3_d, 1D20 GPIO1_D7_u, 1E16 VCCIO4, 1E18 GPIO2_A4_u, 1E19 GPIO2_A1_u, 1E20 GPIO1_D5_u, 1F17 VCCIO3, 1F18 GPIO2_A0_u, 1F19 GPIO1_D6_u, A22 GPIO1_A0_u, A23 GPIO1_A2_d, A26 GPIO1_B1_d, A27 GPIO1_C4_u, A29 GPIO1_C5_d, A30 GPIO1_C1_u, A32 GPIO1_B4_u, A33 GPIO1_C3_u, A35 GPIO2_B1_d, A37 GPIO2_C0_d, B22 GPIO1_A1_u, B23 GPIO1_A3_d, B24 GPIO1_A5_d, B25 GPIO1_A7_d, B26 GPIO1_B2_d, B27 GPIO1_B5_u, B29 GPIO1_B7_u, B30 GPIO1_C2_u, B32 GPIO1_B6_u, B33 GPIO1_C0_u, B34 GPIO2_B2_u, B35 GPIO2_A7_u, B36 GPIO2_C1_d, B37 GPIO2_B0_d, B38 GPIO2_C6_d, C37 GPIO2_C2_d, D37 GPIO2_C5_d, D38 GPIO2_B7_d, F37 GPIO2_B5_u, F38 GPIO2_B4_u, G37 GPIO2_B6_u, G38 GPIO2_A2_d
part F pins: 1A19 SARADC_VIN3, 1B18 SARADC_VIN2, 1C17 SARADC_VIN1, 1D15 OTP_VCC18, 1D16 SARADC_AVDD_1V8, 1D17 SARADC_VIN0, 1L1 GPIO4_B6_d, 1L2 GPIO4_B0_d, 1L4 VCCIO6_1, 1L5 VCCIO6_2, 1N1 GPIO4_A7_d, 1N2 GPIO4_A4_d, 1N5 VCCIO5_1, 1N6 VCCIO5_2, 1N8 VCCIO7, 1P2 GPIO4_A1_d, 1P3 GPIO3_C4_d, 1P4 GPIO3_C5_d, 1R1 GPIO4_A2_d, 1R2 GPIO3_D4_d, 1T1 GPIO3_D5_d, 1T2 GPIO3_C6_d, 1T4 GPIO3_B5_d, 1T6 GPIO4_C6_d, 1U1 GPIO3_C7_d, 1U3 GPIO3_B4_d, 1U4 GPIO3_A6_d, 1U5 GPIO3_A1_d, 1U6 GPIO4_C5_d, 1U7 GPIO4_C2_d, 1V2 GPIO3_B6_d, 1V3 GPIO3_A7_d, 1V5 GPIO4_D1_u, 1V6 GPIO4_C4_d, AB1 GPIO4_C1_d, AB2 GPIO4_C0_d, AC2 GPIO4_B7_d, AD1 GPIO4_B5_d, AE2 GPIO4_B3_d, AF1 GPIO4_B4_d, AF2 GPIO4_B2_d, AG2 GPIO4_B1_d, AH2 GPIO4_A6_d, AJ1 GPIO4_A5_d, AJ2 GPIO4_A3_d, AK2 GPIO4_A0_d, AL1 GPIO3_D7_d, AL2 GPIO3_D6_d, AM1 GPIO3_D3_d, AM2 GPIO3_D2_d, AN2 GPIO3_D1_d, AP1 GPIO3_D0_d, AP3 GPIO3_C2_d, AP4 GPIO3_C1_d, AP5 GPIO3_B7_d, AP6 GPIO3_B3_d, AP7 GPIO3_B1_d, AP9 GPIO3_A5_d, AP10 GPIO3_A3_d, AP11 GPIO4_D0_u, AP12 GPIO4_C3_d, AR2 GPIO3_C3_d, AR4 GPIO3_C0_d, AR6 GPIO3_B2_d, AR7 GPIO3_B0_d, AR9 GPIO3_A4_d, AR10 GPIO3_A2_d, AR12 GPIO4_C7_u
part G pins: 1N9 MIPI_CSI_RX_AVDD_0V9, 1N10 MIPI_DSI_TX1_AVDD_0V9, 1N13 HDMI_TX_AVDD_0V9_2, 1N14 HDMI_TX_AVDD_0V9_1, 1P9 MIPI_CSI_RX_AVDD_1V8, 1P11 MIPI_DSI_TX0/LVDS_TX0_AVDD_0V9, 1P12 MIPI_DSI_TX0/LVDS_TX0_AVDD_1V8, 1P13 HDMI_TX_AVDD_1V8, 1R10 MIPI_DSI_TX1_AVDD_1V8, 1U8 MIPI_CSI_RX_CLK1N, 1U9 MIPI_CSI_RX_CLK0N, 1U11 MIPI_DSI_TX1_CLKN, 1U16 HDMI_TX_REXT, 1V8 MIPI_CSI_RX_CLK1P, 1V9 MIPI_CSI_RX_CLK0P, 1V11 MIPI_DSI_TX1_CLKP, 1V15 MIPI_DSI_TX0_CLKN/LVDS_TX0_CLKN, 1V16 MIPI_DSI_TX0_CLKP/LVDS_TX0_CLKP, 1V17 HDMI_TX_HPDIN, AP14 MIPI_CSI_RX_D3N, AP15 MIPI_CSI_RX_D2P, AP17 MIPI_CSI_RX_D1N, AP18 MIPI_CSI_RX_D0P, AP20 MIPI_DSI_TX1_D3N, AP21 MIPI_DSI_TX1_D2P, AP23 MIPI_DSI_TX1_D1N, AP24 MIPI_DSI_TX1_D0P, AP26 MIPI_DSI_TX0_D3N/LVDS_TX0_D3N, AP27 MIPI_DSI_TX0_D2P/LVDS_TX0_D2P, AP29 MIPI_DSI_TX0_D1N/LVDS_TX0_D1N, AP30 MIPI_DSI_TX0_D0P/LVDS_TX0_D0P, AP32 HDMI_TX_CLKN, AP33 HDMI_TX_D0P, AP35 HDMI_TX_D1N, AP36 HDMI_TX_D2P, AR14 MIPI_CSI_RX_D3P, AR15 MIPI_CSI_RX_D2N, AR17 MIPI_CSI_RX_D1P, AR18 MIPI_CSI_RX_D0N, AR20 MIPI_DSI_TX1_D3P, AR21 MIPI_DSI_TX1_D2N, AR23 MIPI_DSI_TX1_D1P, AR24 MIPI_DSI_TX1_D0N, AR26 MIPI_DSI_TX0_D3P/LVDS_TX0_D3P, AR27 MIPI_DSI_TX0_D2N/LVDS_TX0_D2N, AR29 MIPI_DSI_TX0_D1P/LVDS_TX0_D1P, AR30 MIPI_DSI_TX0_D0N/LVDS_TX0_D0N, AR32 HDMI_TX_CLKP, AR33 HDMI_TX_D0N, AR35 HDMI_TX_D1P, AR36 HDMI_TX_D2N
part H pins: 1G17 EDP_TX_AVDD_1V8, 1H16 USB_AVDD1_1V8, 1H17 EDP_TX_AVDD_0V9, 1H18 USB_AVDD1_3V3, 1H19 EDP_TX_AUXP, 1H20 EDP_TX_AUXN, 1J2 USB_AVDD2_3V3, 1J3 USB_AVDD2_1V8, 1J4 USB_AVDD2_0V9, 1J17 USB_AVDD1_0V9, 1J19 USB_HOST1_DP, 1J20 USB_HOST1_DM, 1K16 MULTI_PHY_AVDD_0V9, 1K17 MULTI_PHY_AVDD_1V8, 1K19 PCIE20_REFCLKP, 1K20 PCIE20_REFCLKN, AA37 PCIE20_TXP/SATA2_TXP, AA38 PCIE20_TXN/SATA2_TXN, AB37 PCIE20_RXP/SATA2_RXP, AB38 PCIE20_RXN/SATA2_RXN, J37 EDP_TX_D0P, J38 EDP_TX_D0N, K37 EDP_TX_D1N, K38 EDP_TX_D1P, M37 EDP_TX_D2P, M38 EDP_TX_D2N, N37 EDP_TX_D3P, N38 EDP_TX_D3N, R37 USB_OTG0_DP, R38 USB_OTG0_DM, T37 USB_OTG0_ID, T38 USB_OTG0_VBUSDET, V1 USB_HOST2_DM, V2 USB_HOST2_DP, V37 USB3_HOST1_SSRXN/SATA1_RXN, V38 USB3_HOST1_SSRXP/SATA1_RXP, W37 USB3_HOST1_SSTXP/SATA1_TXP, W38 USB3_HOST1_SSTXN/SATA1_TXN, Y1 USB_HOST3_DM, Y2 USB_HOST3_DP

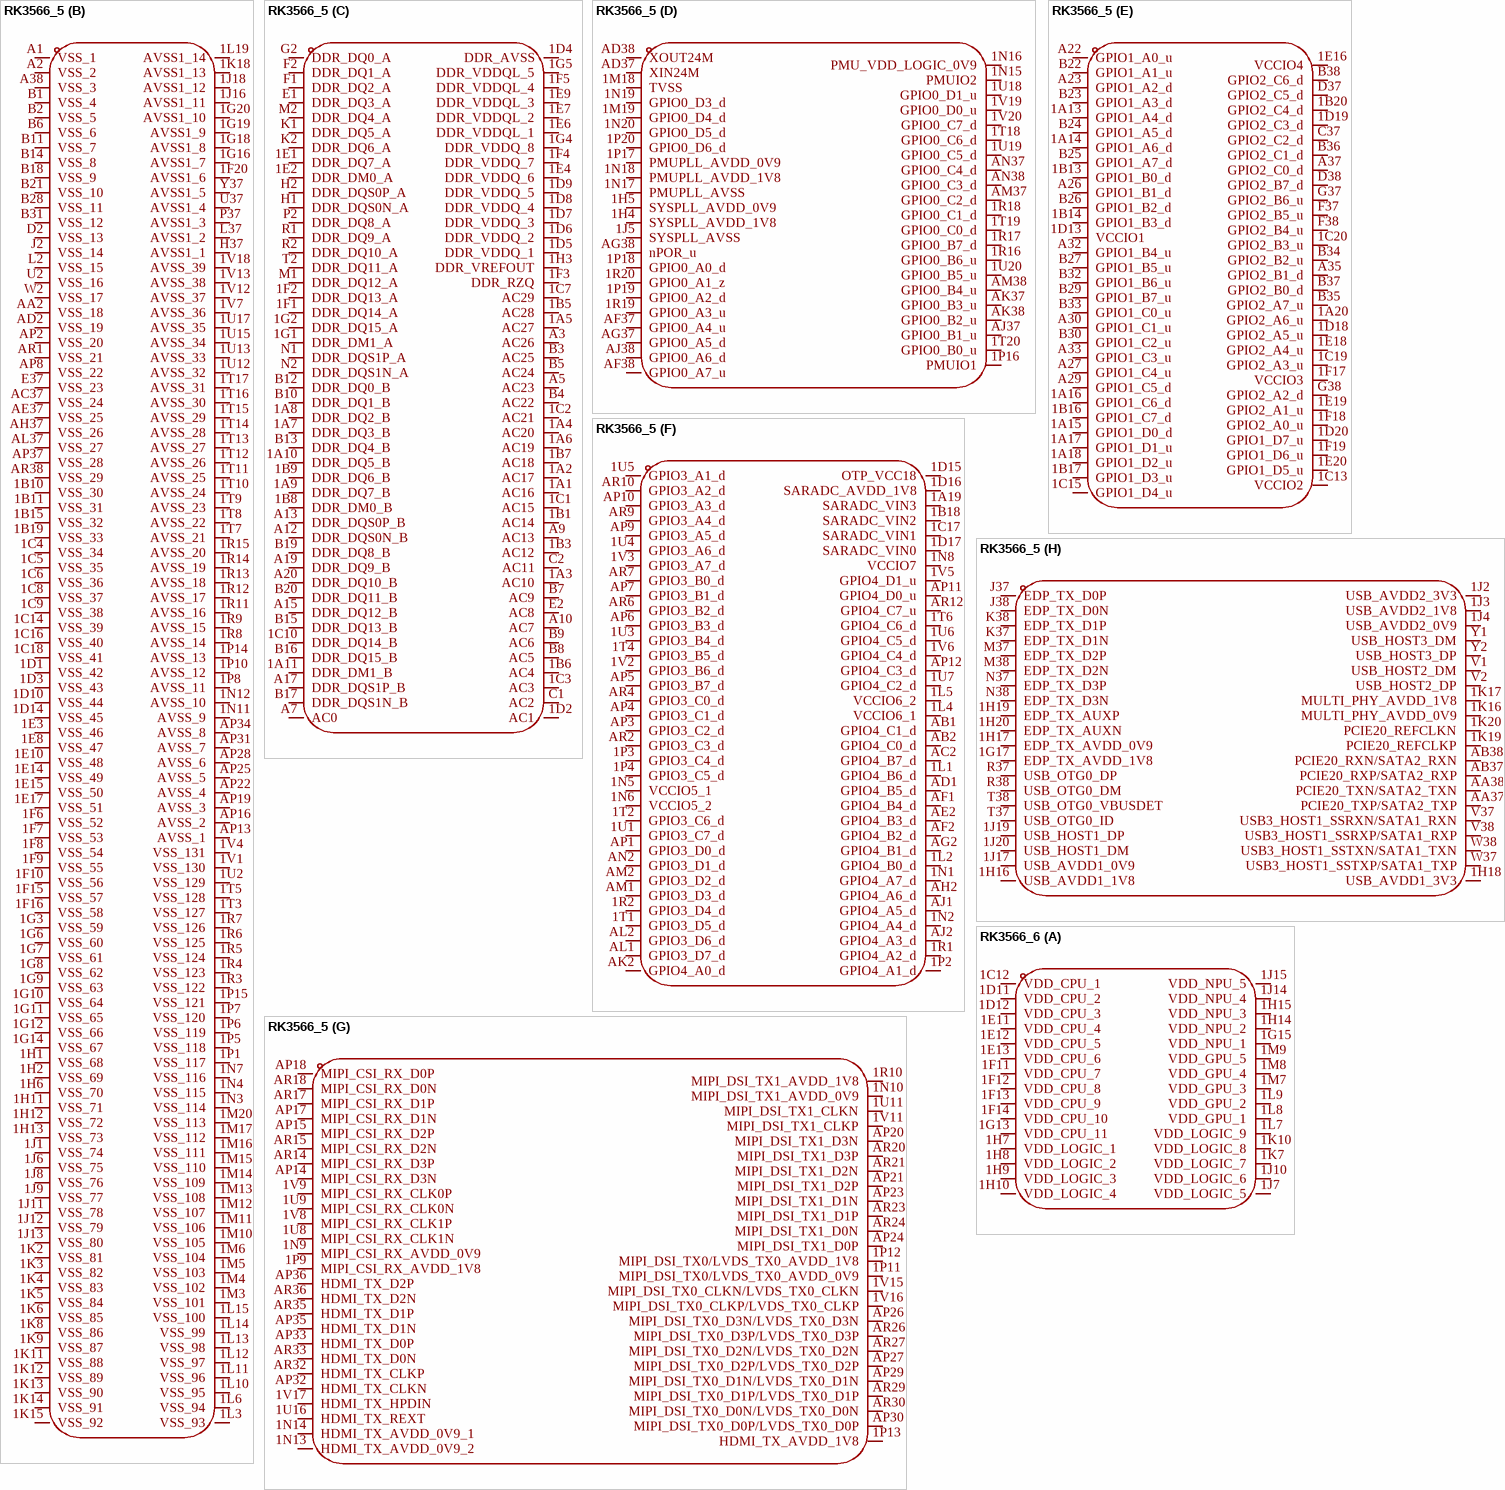
[diagram p12: symbols RK3566_5 to RK3566_6]